# Altium schematic symbol library devices.SCHLIB: 305 symbols (part 1 of 5)
Pins are listed as number, name and electrical type; pins without a type are passive.

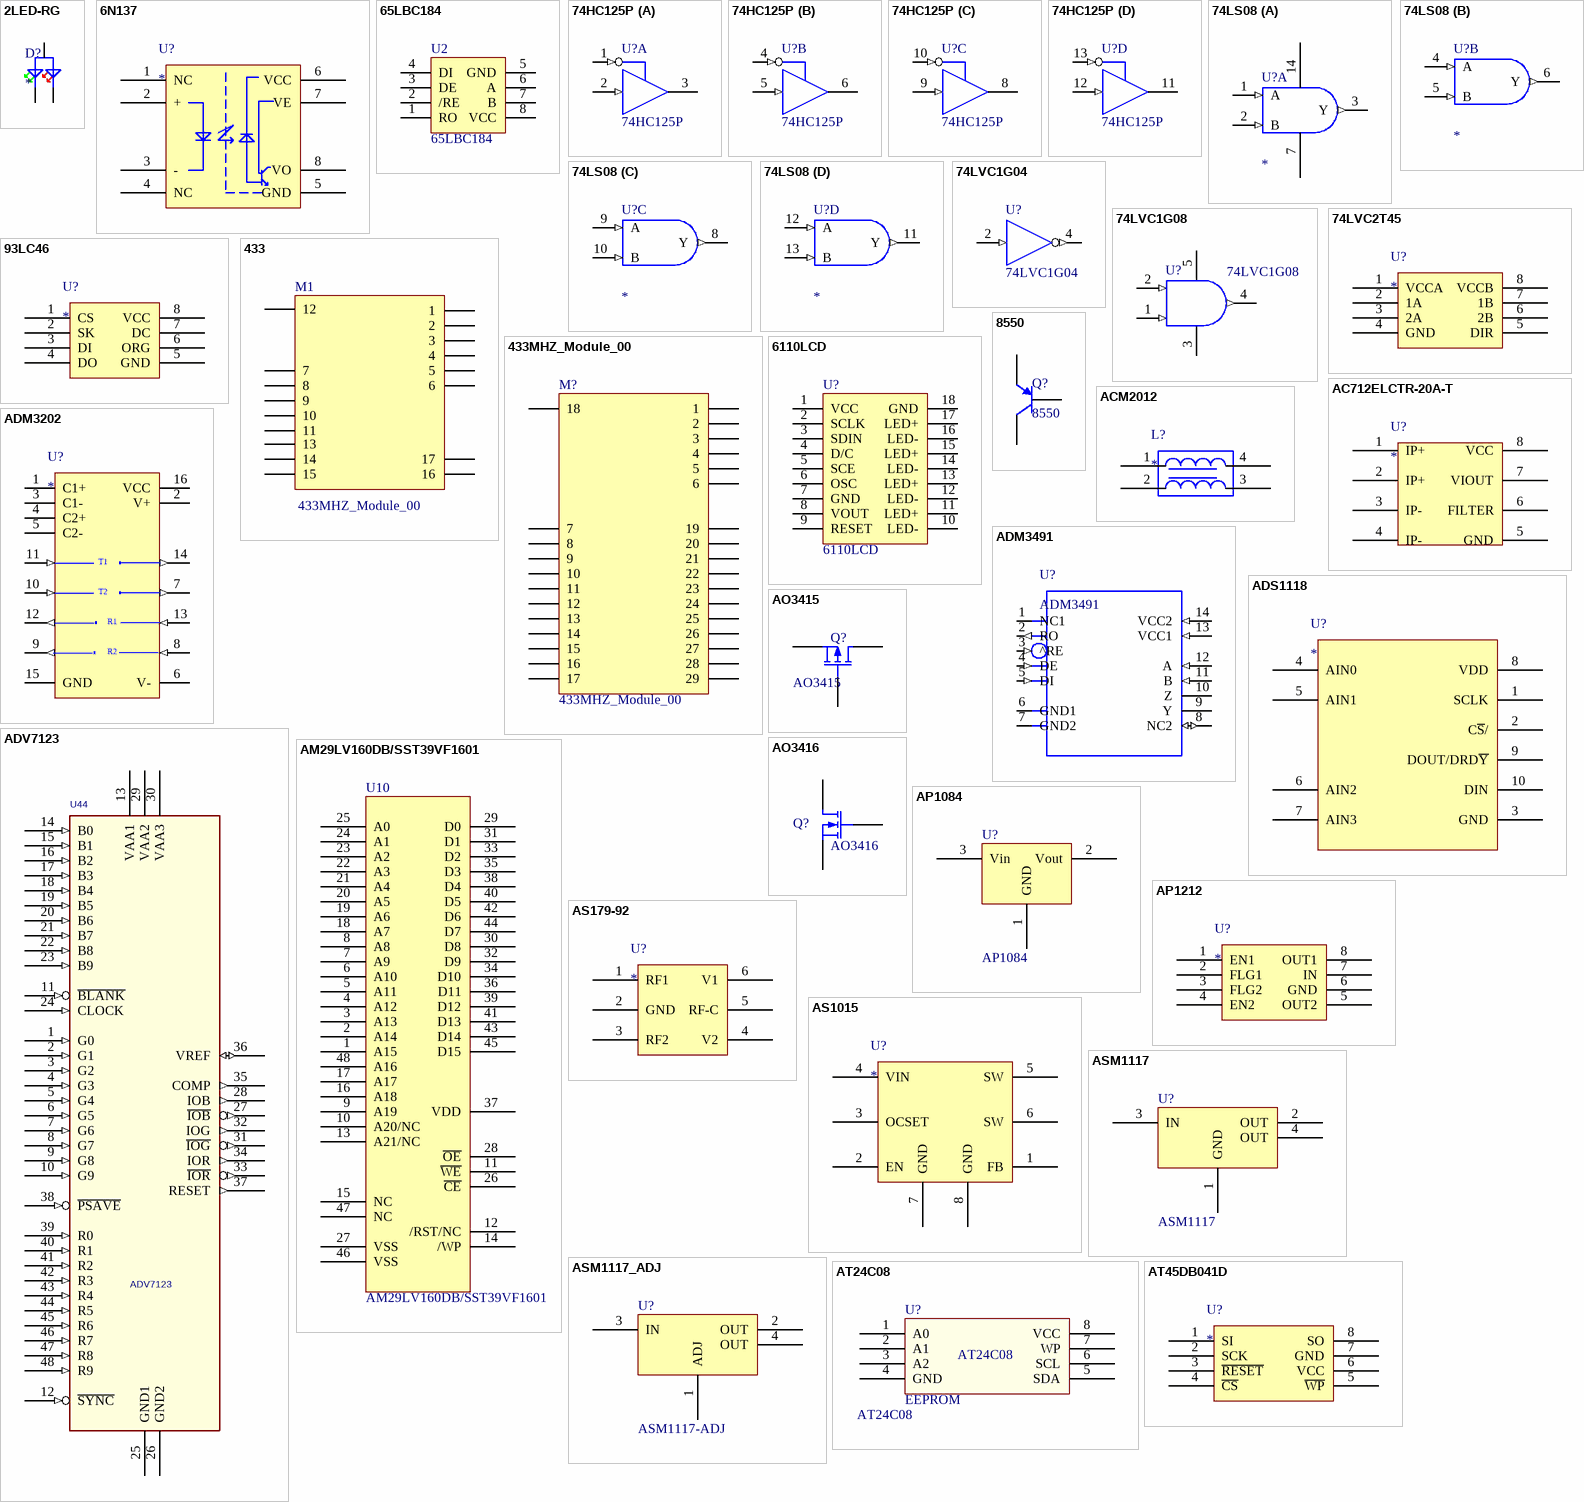
[diagram p0: symbols 2LED-RG to AT45DB041D]

## 2LED-RG
designator D?
pins: 1 G, 2 +, 3 R

## 6N137
designator U?
pins: 1 NC, 2 +, 3 -, 4 NC, 5 GND, 6 VCC, 7 VE, 8 VO

## 65LBC184
designator U2
pins: 1 RO, 2 /RE, 3 DE, 4 DI, 5 GND, 6 A, 7 B, 8 VCC

## 74HC125P
designator U?
Quad Bus Buffer Gates with 3-State Outputs; Published: 10-Feb-2010; DatasheetVersion: Rev.3.00, Mar-2009; PackageVersion: Sep-2005; PackageReference: PRDP0014AB-B; Publisher: Altium Limited; PackageDescription: 14-Pin Plastic DIP, 19.2 x 6.3 mm Body, 7.62 mm Row Spacing, Pitch 2.54 mm; Code_JEITA: P-DIP14-6.3x19.2-2.54; ComponentLink1Description: Manufacturer Link; ComponentLink1URL: http://sg.renesas.com/fmwk.jsp?cnt=hd74hc_root.jsp&fp=/products/standard_ic/general_purpose_logic/5v_standard_logic/hd74hc/; ComponentLink2Description: Datasheet; ComponentLink2URL: http://documentation.renesas.com/eng/products/logic/rej03d0565_hd74hc125_126ds.pdf; ComponentLink3Description: Packaging Specification; ComponentLink3URL: http://sg.renesas.com/media/products/common_info/package/pdf/ic/code/prdp0014ab_b.pdf
footprint SSOP14-D (SOIC, 14-Leads, Body 8.7x3.9mm, Pitch 1.27mm, IPC Medium Density)
pins on every part: 7 GND (power) hidden, 14 VCC (power) hidden
part A pins: 1 1~{C} (in), 2 1A (in), 3 1Y (hiz)
part B pins: 4 2~{C} (in), 5 2A (in), 6 2Y (hiz)
part C pins: 8 3Y (hiz), 9 3A (in), 10 3~{C} (in)
part D pins: 11 4Y (hiz), 12 4A (in), 13 4~{C} (in)

## 74LS08
designator U?
PARTS: 4; OriginalSymbolOrigin: (20,50); PINSWAP: (A,B); LEVEL: STD; DEVICE: MM74HC08MX
part A pins: 1 A (in), 2 B (in), 3 Y (out), 7 GND, 14 VCC
part B pins: 4 A (in), 5 B (in), 6 Y (out)
part C pins: 8 Y (out), 9 A (in), 10 B (in)
part D pins: 11 Y (out), 12 A (in), 13 B (in)

## 74LVC1G04
designator U?
Inverter; Published: 10-Feb-2010; DatasheetVersion: Rev.8.00, Mar-2008; PackageVersion: Jan-2005; PackageReference: PTSP0005ZC-A; Publisher: Altium Limited; PackageDescription: 5-Pin Plastic SOT-353 Package 0.65 mm Pitch, 2.1 mm Lead Span; Code_JEITA: SC-88A; Code_IPC: SOT353-5; ComponentLink1Description: Manufacturer Link; ComponentLink1URL: http://sg.renesas.com/fmwk.jsp?cnt=unilogic_lva_lvta_root.jsp&fp=/products/standard_ic/general_purpose_logic/uni_logic/unilogic_lva_lvta/; ComponentLink2Description: Datasheet; ComponentLink2URL: http://documentation.renesas.com/eng/products/logic/rej03d0064_hd74lv1g04a.pdf; ComponentLink3Description: Packaging Specification; ComponentLink3URL: http://sg.renesas.com/media/products/common_info/package/pdf/ic/code/ptsp0005zc_a.pdf
footprint SOT23-5 (SOT-23/SC-74A; 5 Leads; Body 3 x 3 mm, inc. leads (LxW max))
footprint PTSP0005ZC-A_L (SOT353, 5-Leads, Body 2x1.3mm, Pitch 0.65mm, Lead Span 2.1mm, IPC High Density)
footprint PTSP0005ZC-A_M (SOT353, 5-Leads, Body 2x1.3mm, Pitch 0.65mm, Lead Span 2.1mm, IPC Low Density)
pins: 1 NC hidden, 2 IN A (in), 3 GND (power) hidden, 4 OUT ~{Y} (out), 5 VCC (power) hidden

## 74LVC1G08
designator U?
2-Input AND Gate; Published: 10-Feb-2010; DatasheetVersion: Rev.5.00, Jan-2004; PackageVersion: Jan-2005; PackageReference: PTSP0005ZC-A; Publisher: Altium Limited; PackageDescription: 5-Pin Plastic SOT-353 Package 0.65 mm Pitch, 2.1 mm Lead Span; Code_JEITA: SC-88A; Code_IPC: SOT353-5; ComponentLink1Description: Manufacturer Link; ComponentLink1URL: http://sg.renesas.com/fmwk.jsp?cnt=unilogic_hc_root.jsp&fp=/products/standard_ic/general_purpose_logic/uni_logic/unilogic_hc/; ComponentLink2Description: Datasheet; ComponentLink2URL: http://documentation.renesas.com/eng/products/logic/rej03d0194_hd74hct1g08.pdf; ComponentLink3Description: Packaging Specification; ComponentLink3URL: http://sg.renesas.com/media/products/common_info/package/pdf/ic/code/ptsp0005zc_a.pdf
footprint SOT23-5 (SOT-23/SC-74A; 5 Leads; Body 3 x 3 mm, inc. leads (LxW max))
footprint PTSP0005ZC-A_L (SOT353, 5-Leads, Body 2x1.3mm, Pitch 0.65mm, Lead Span 2.1mm, IPC High Density)
footprint PTSP0005ZC-A_M (SOT353, 5-Leads, Body 2x1.3mm, Pitch 0.65mm, Lead Span 2.1mm, IPC Low Density)
pins: 1 IN B (in), 2 IN A (in), 3 GND (power), 4 OUT Y (out), 5 VCC (power)

## 74LVC2T45
designator U?
pins: 1 VCCA, 2 1A, 3 2A, 4 GND, 5 DIR, 6 2B, 7 1B, 8 VCCB

## 93LC46
designator U?
pins: 1 CS, 2 SK, 3 DI, 4 DO, 5 GND, 6 ORG, 7 DC, 8 VCC

## 433
designator M1, comment value 433MHZ_Module_00  (hidden comment: Module)
433MHZ_Module_00; LatestRevisionDate: 17-Jul-2002; LatestRevisionNote: Re-released for DXP Platform.; Publisher: Altium Limited
footprint 433
pins: 1, 2, 3, 4, 5, 6, 7, 8, 9, 10, 11, 12, 13, 14, 15, 16, 17

## 433MHZ_Module_00
designator M?, comment value 433MHZ_Module_00  (hidden comment: Module)
433MHZ_Module_00; LatestRevisionDate: 17-Jul-2002; LatestRevisionNote: Re-released for DXP Platform.; Publisher: Altium Limited
footprint 433MHZ_Module_01
pins: 1, 2, 3, 4, 5, 6, 7, 8, 9, 10, 11, 12, 13, 14, 15, 16, 17, 18, 19, 20, 21, 22, 23, 24, 25, 26, 27, 28, 29

## 6110LCD
designator U?
footprint 6110LCD
pins: 1 VCC, 2 SCLK, 3 SDIN, 4 D/C, 5 SCE, 6 OSC, 7 GND, 8 VOUT, 9 RESET, 10 LED-, 11 LED+, 12 LED-, 13 LED+, 14 LED-, 15 LED+, 16 LED-, 17 LED+, 18 GND

## 8550
designator Q?
PNP General Purpose Amplifier; Published: 8-Jun-2000; LatestRevisionDate: 15-Jan-2003; LatestRevisionNote: PCB Footprint 'BCY-W3/D4.7' replaced; DatasheetDocument: 1997; PackageDocument: Sep-1998; PackageReference: TO-92A; Publisher: Altium Limited; Code_JEDEC: TO-92A; ComponentLink1Description: Manufacturer Link; ComponentLink1URL: http://www.fairchildsemi.com/; ComponentLink2Description: Datasheet; ComponentLink2URL: http://www.fairchildsemi.com/ds/2N%2F2N3906.pdf
footprint TO-92A (TO, Flat Index; 3 In-Line, Axial Leads; Body Dia. 4.5mm; Leads 0.51 x 0.48 mm (max))
simulation model 2N3906 (PNP)
signal-integrity model 2N3906
pins: 1 B, 2 E, 3 C

## AC712ELCTR-20A-T
designator U?
pins: 1 IP+, 2 IP+, 3 IP-, 4 IP-, 5 GND, 6 FILTER, 7 VIOUT, 8 VCC

## ACM2012
designator L?
pins: 1, 2, 3, 4

## ADM3202
designator U?
pins: 1 C1+, 2 V+ (power), 3 C1-, 4 C2+, 5 C2-, 6 V- (power), 7 T2OUT (out), 8 R2IN (in), 9 R2OUT (out), 10 T2IN (in), 11 T1IN (in), 12 R1OUT (out), 13 R1IN (in), 14 T1OUT (out), 15 GND (power), 16 VCC (power)
text: T1; T2; R1; R2

## ADM3491
designator U?
pins: 1 NC1 (io), 2 RO (out), 3 ^RE (in), 4 DE (in), 5 DI (in), 6 GND1 (io), 7 GND2 (io), 8 NC2 (io), 9 Y, 10 Z, 11 B (in), 12 A (in), 13 VCC1 (in), 14 VCC2 (in)

## ADS1118
designator U?
pins: 1 SCLK, 2 C~{S}/, 3 GND, 4 AIN0, 5 AIN1, 6 AIN2, 7 AIN3, 8 VDD, 9 DOUT/DRD~{Y}, 10 DIN

## ADV7123
designator U44
IC LIN DAC 10BIT TRIP 240MHZ 3.3-5V LQFP48; CAD_APPROVED: Yes; MFG_PN01: ADV7123JSTZ240; MFG_NAME01: ANALOG DEVICES; AGILE_PN: 315-78825; HEIGHT: 1.6MM; ROHS: Yes
footprint LQFP48
pins: 1 G0 (in), 2 G1 (in), 3 G2 (in), 4 G3 (in), 5 G4 (in), 6 G5 (in), 7 G6 (in), 8 G7 (in), 9 G8 (in), 10 G9 (in), 11 ~{BLANK} (in), 12 ~{SYNC} (in), 13 VAA1 (power), 14 B0 (in), 15 B1 (in), 16 B2 (in), 17 B3 (in), 18 B4 (in), 19 B5 (in), 20 B6 (in), 21 B7 (in), 22 B8 (in), 23 B9 (in), 24 CLOCK (in), 25 GND1 (power), 26 GND2 (power), 27 ~{IOB} (out), 28 IOB (out), 29 VAA2 (power), 30 VAA3 (power), 31 ~{IOG} (out), 32 IOG (out), 33 ~{IOR} (out), 34 IOR (out), 35 COMP (out), 36 VREF (io), 37 RESET (out), 38 ~{PSAVE} (in), 39 R0 (in), 40 R1 (in), 41 R2 (in), 42 R3 (in), 43 R4 (in), 44 R5 (in), 45 R6 (in), 46 R7 (in), 47 R8 (in), 48 R9 (in)

## AM29LV160DB/SST39VF1601
designator U10
footprint TSOP48
pins: 1 A15, 2 A14, 3 A13, 4 A12, 5 A11, 6 A10, 7 A9, 8 A8, 9 A19, 10 A20/NC, 11 ~{WE}, 12 /RST/NC, 13 A21/NC, 14 /WP, 15 NC, 16 A18, 17 A17, 18 A7, 19 A6, 20 A5, 21 A4, 22 A3, 23 A2, 24 A1, 25 A0, 26 ~{CE}, 27 VSS, 28 ~{OE}, 29 D0, 30 D8, 31 D1, 32 D9, 33 D2, 34 D10, 35 D3, 36 D11, 37 VDD, 38 D4, 39 D12, 40 D5, 41 D13, 42 D6, 43 D14, 44 D7, 45 D15, 46 VSS, 47 NC, 48 A16

## AO3415
designator Q?
N-Channel MOSFET; PackageDocument: 1995/1996; Published: 8-Jun-2000; LatestRevisionDate: 17-Jul-2002; LatestRevisionNote: Re-released for DXP Platform.; PackageReference: E3; Publisher: Altium Limited
footprint SOT-23
simulation model PMOS (MOSFET-P)
pins: 1 G, 2 S, 3 D

## AO3416
designator Q?
N-Channel MOSFET; PackageDocument: 1995/1996; Published: 8-Jun-2000; LatestRevisionDate: 17-Jul-2002; LatestRevisionNote: Re-released for DXP Platform.; PackageReference: E3; Publisher: Altium Limited
footprint SOT-23
simulation model NMOS (MOSFET-N)
pins: 1 G, 2 S, 3 D

## AP1084
designator U?
pins: 1 GND, 2 Vout, 3 Vin

## AP1212
designator U?
pins: 1 EN1, 2 FLG1, 3 FLG2, 4 EN2, 5 OUT2, 6 GND, 7 IN, 8 OUT1

## AS179-92
designator U?
pins: 1 RF1, 2 GND, 3 RF2, 4 V2, 5 RF-C, 6 V1

## AS1015
designator U?
pins: 1 FB, 2 EN, 3 OCSET, 4 VIN, 5 SW, 6 SW, 7 GND, 8 GND

## ASM1117
designator U?
pins: 1 GND, 2 OUT, 3 IN, 4 OUT

## ASM1117_ADJ
designator U?, comment ASM1117-ADJ
pins: 1 ADJ, 2 OUT, 3 IN, 4 OUT

## AT24C08
designator U?, comment EEPROM  value AT24C08
footprint AT24C08A
pins: 1 A0, 2 A1, 3 A2, 4 GND, 5 SDA, 6 SCL, 7 WP, 8 VCC

## AT45DB041D
designator U?
pins: 1 SI, 2 SCK, 3 ~{RESET}, 4 ~{CS}, 5 ~{WP}, 6 VCC, 7 GND, 8 SO

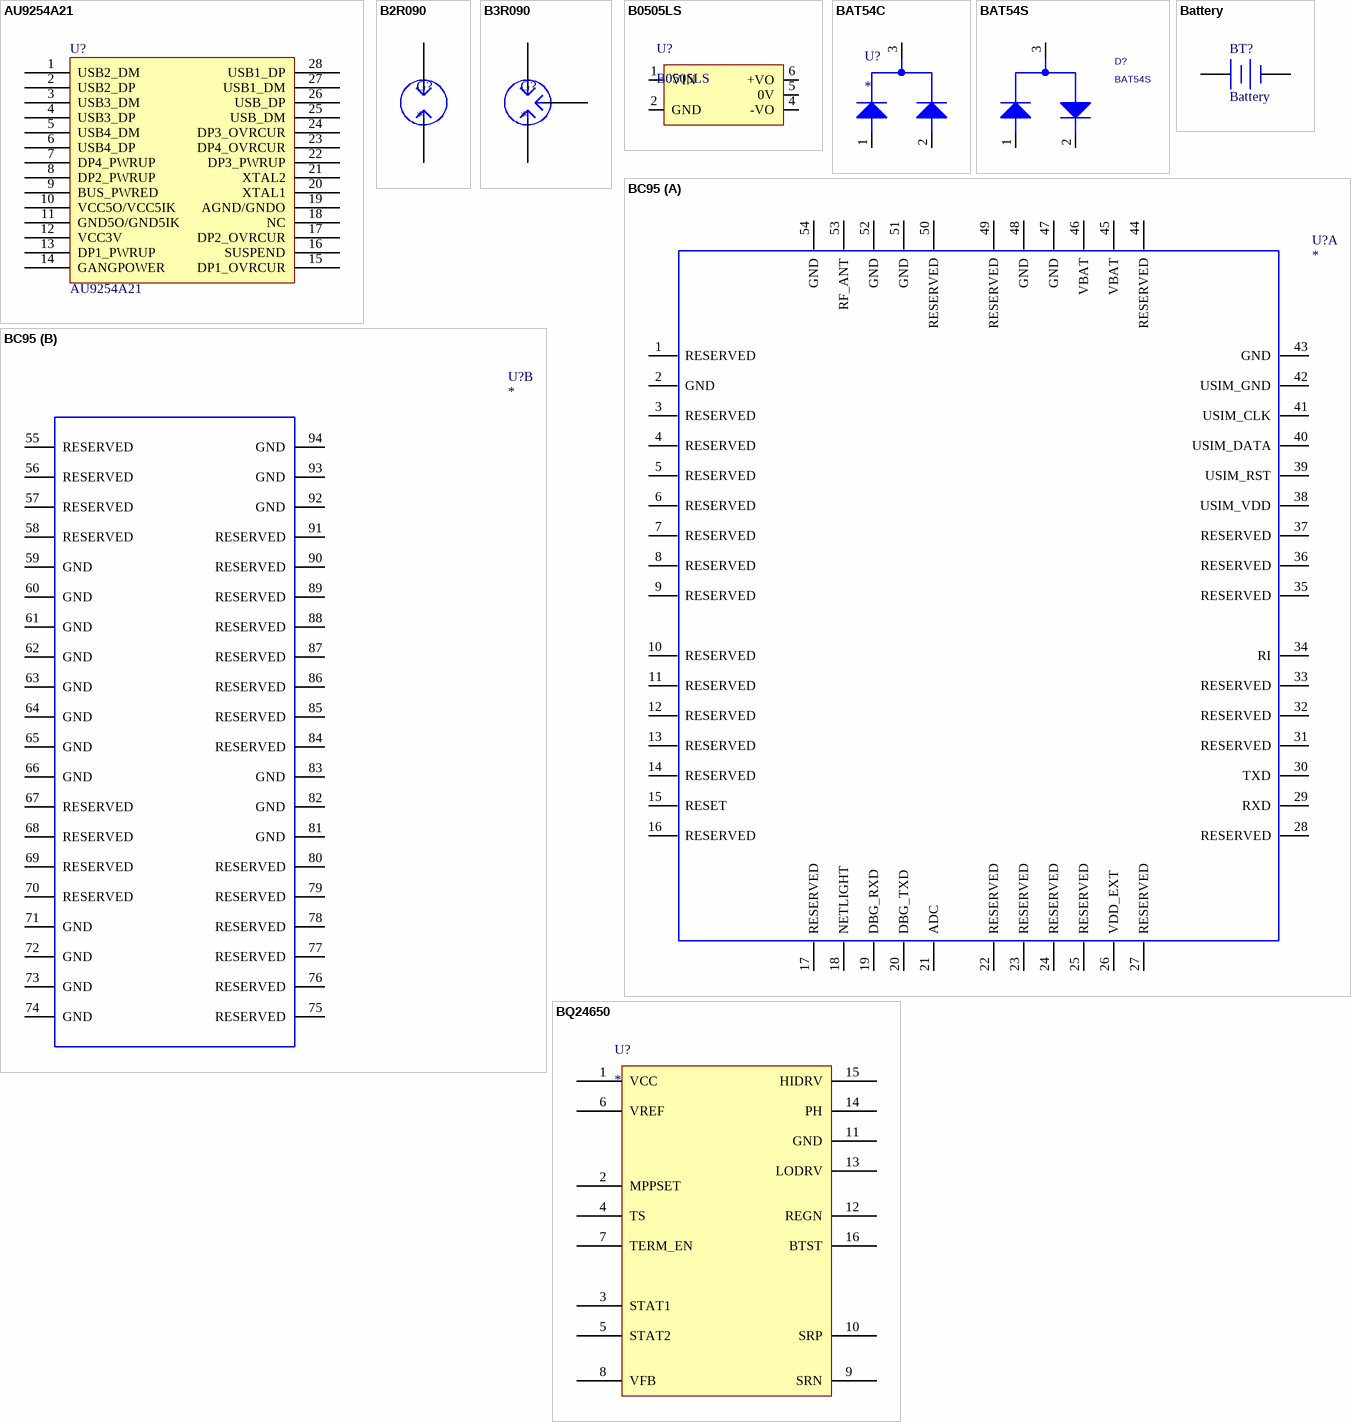
[diagram p1: symbols AU9254A21 to BQ24650]

## AU9254A21
designator U?
pins: 1 USB2_DM, 2 USB2_DP, 3 USB3_DM, 4 USB3_DP, 5 USB4_DM, 6 USB4_DP, 7 DP4_PWRUP, 8 DP2_PWRUP, 9 BUS_PWRED, 10 VCC5O/VCC5IK, 11 GND5O/GND5IK, 12 VCC3V, 13 DP1_PWRUP, 14 GANGPOWER, 15 DP1_OVRCUR, 16 SUSPEND, 17 DP2_OVRCUR, 18 NC, 19 AGND/GNDO, 20 XTAL1, 21 XTAL2, 22 DP3_PWRUP, 23 DP4_OVRCUR, 24 DP3_OVRCUR, 25 USB_DM, 26 USB_DP, 27 USB1_DM, 28 USB1_DP

## B2R090
designator G?
pins: 1, 2

## B3R090
designator G?
pins: 1, 2, 3

## B0505LS
designator U?
pins: 1 VIN, 2 GND, 4 -VO, 5 0V, 6 +VO

## BAT54C
designator U?
pins: 1 ANODE1, 2 CATHODE2, 3 CATHODE1ANODE2

## BAT54S
designator D?
CAD_APPROVED: YES; MFG_NAME01: FAIRCHILD; AGILE_PN: 480-75079; HEIGHT: 1.1 MM; ROHS: Yes; MFG_PN01: BAT54S
footprint SOT-23
pins: 1 ANODE1, 2 CATHODE2, 3 CATHODE1ANODE2

## Battery
designator BT?
Multicell Battery; Published: 24-Mar-1999; Revision: July-2002: Re-released for DXP Platform.; Publisher: Altium Limited
pins: 1 +, 2 -

## BC95
designator U?
Value: *; Part Description: *; PCB DECAL: *
part A pins: 1 RESERVED, 2 GND, 3 RESERVED, 4 RESERVED, 5 RESERVED, 6 RESERVED, 7 RESERVED, 8 RESERVED, 9 RESERVED, 10 RESERVED, 11 RESERVED, 12 RESERVED, 13 RESERVED, 14 RESERVED, 15 RESET, 16 RESERVED, 17 RESERVED, 18 NETLIGHT, 19 DBG_RXD, 20 DBG_TXD, 21 ADC, 22 RESERVED, 23 RESERVED, 24 RESERVED, 25 RESERVED, 26 VDD_EXT, 27 RESERVED, 28 RESERVED, 29 RXD, 30 TXD, 31 RESERVED, 32 RESERVED, 33 RESERVED, 34 RI, 35 RESERVED, 36 RESERVED, 37 RESERVED, 38 USIM_VDD, 39 USIM_RST, 40 USIM_DATA, 41 USIM_CLK, 42 USIM_GND, 43 GND, 44 RESERVED, 45 VBAT, 46 VBAT, 47 GND, 48 GND, 49 RESERVED, 50 RESERVED, 51 GND, 52 GND, 53 RF_ANT, 54 GND
part B pins: 55 RESERVED, 56 RESERVED, 57 RESERVED, 58 RESERVED, 59 GND, 60 GND, 61 GND, 62 GND, 63 GND, 64 GND, 65 GND, 66 GND, 67 RESERVED, 68 RESERVED, 69 RESERVED, 70 RESERVED, 71 GND, 72 GND, 73 GND, 74 GND, 75 RESERVED, 76 RESERVED, 77 RESERVED, 78 RESERVED, 79 RESERVED, 80 RESERVED, 81 GND, 82 GND, 83 GND, 84 RESERVED, 85 RESERVED, 86 RESERVED, 87 RESERVED, 88 RESERVED, 89 RESERVED, 90 RESERVED, 91 RESERVED, 92 GND, 93 GND, 94 GND
2 alternate drawings of the same symbol

## BQ24650
designator U?
pins: 1 VCC, 2 MPPSET, 3 STAT1, 4 TS, 5 STAT2, 6 VREF, 7 TERM_EN, 8 VFB, 9 SRN, 10 SRP, 11 GND, 12 REGN, 13 LODRV, 14 PH, 15 HIDRV, 16 BTST

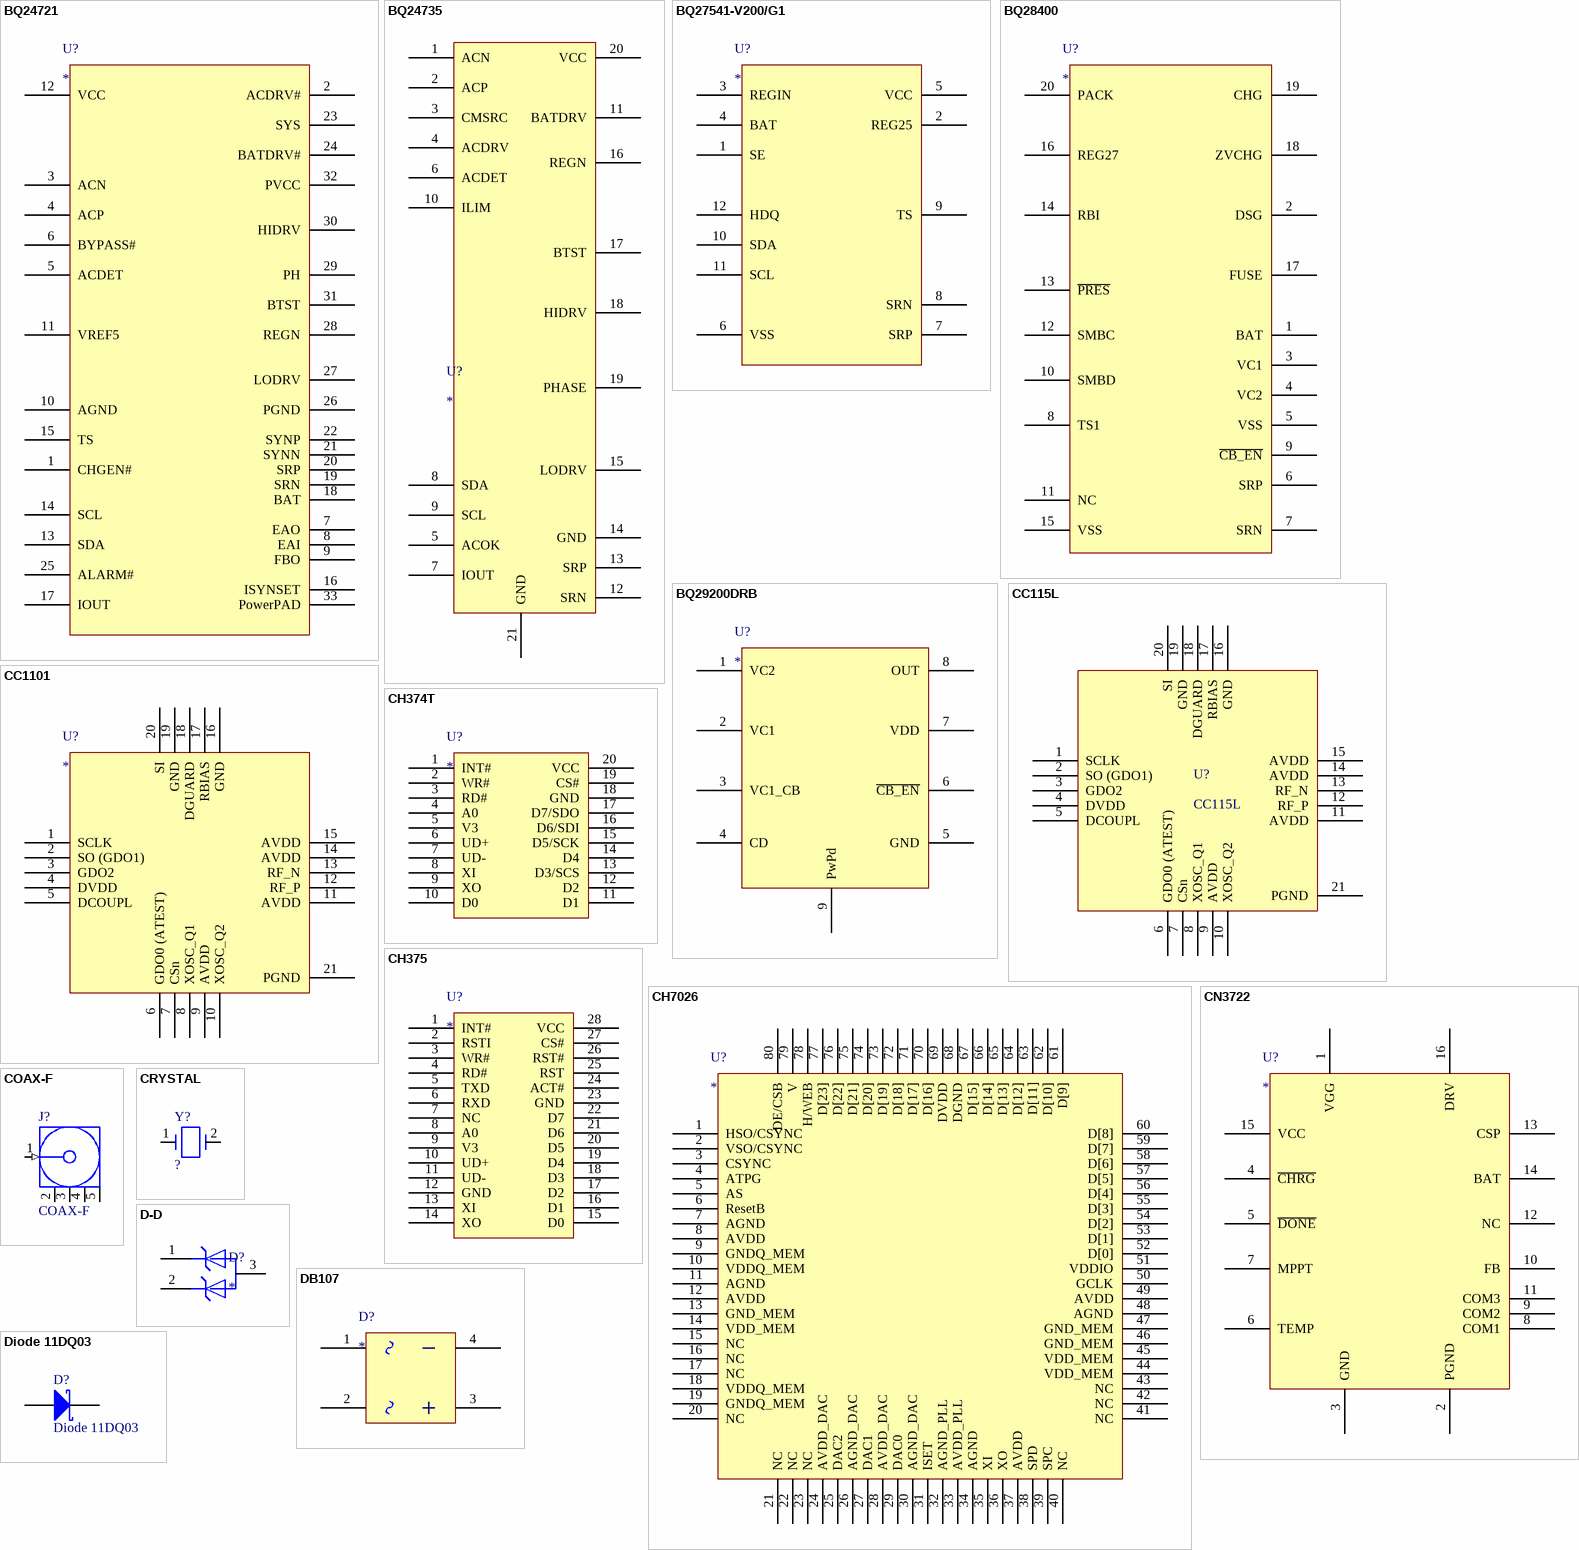
[diagram p2: symbols BQ24721 to Diode 11DQ03]

## BQ24721
designator U?
pins: 1 CHGEN#, 2 ACDRV#, 3 ACN, 4 ACP, 5 ACDET, 6 BYPASS#, 7 EAO, 8 EAI, 9 FBO, 10 AGND, 11 VREF5, 12 VCC, 13 SDA, 14 SCL, 15 TS, 16 ISYNSET, 17 IOUT, 18 BAT, 19 SRN, 20 SRP, 21 SYNN, 22 SYNP, 23 SYS, 24 BATDRV#, 25 ALARM#, 26 PGND, 27 LODRV, 28 REGN, 29 PH, 30 HIDRV, 31 BTST, 32 PVCC, 33 PowerPAD

## BQ24735
designator U?
pins: 1 ACN, 2 ACP, 3 CMSRC, 4 ACDRV, 5 ACOK, 6 ACDET, 7 IOUT, 8 SDA, 9 SCL, 10 ILIM, 11 BATDRV, 12 SRN, 13 SRP, 14 GND, 15 LODRV, 16 REGN, 17 BTST, 18 HIDRV, 19 PHASE, 20 VCC, 21 GND

## BQ27541-V200/G1
designator U?
pins: 1 SE, 2 REG25, 3 REGIN, 4 BAT, 5 VCC, 6 VSS, 7 SRP, 8 SRN, 9 TS, 10 SDA, 11 SCL, 12 HDQ

## BQ28400
designator U?
pins: 1 BAT, 2 DSG, 3 VC1, 4 VC2, 5 VSS, 6 SRP, 7 SRN, 8 TS1, 9 ~{CB_EN}, 10 SMBD, 11 NC, 12 SMBC, 13 ~{PRES}, 14 RBI, 15 VSS, 16 REG27, 17 FUSE, 18 ZVCHG, 19 CHG, 20 PACK

## BQ29200DRB
designator U?
pins: 1 VC2, 2 VC1, 3 VC1_CB, 4 CD, 5 GND, 6 ~{CB_EN}, 7 VDD, 8 OUT, 9 PwPd

## CC115L
designator U?
pins: 1 SCLK, 2 SO (GDO1), 3 GDO2, 4 DVDD, 5 DCOUPL, 6 GDO0 (ATEST), 7 CSn, 8 XOSC_Q1, 9 AVDD, 10 XOSC_Q2, 11 AVDD, 12 RF_P, 13 RF_N, 14 AVDD, 15 AVDD, 16 GND, 17 RBIAS, 18 DGUARD, 19 GND, 20 SI, 21 PGND

## CC1101
designator U?
pins: 1 SCLK, 2 SO (GDO1), 3 GDO2, 4 DVDD, 5 DCOUPL, 6 GDO0 (ATEST), 7 CSn, 8 XOSC_Q1, 9 AVDD, 10 XOSC_Q2, 11 AVDD, 12 RF_P, 13 RF_N, 14 AVDD, 15 AVDD, 16 GND, 17 RBIAS, 18 DGUARD, 19 GND, 20 SI, 21 PGND

## CH374T
designator U?
pins: 1 INT#, 2 WR#, 3 RD#, 4 A0, 5 V3, 6 UD+, 7 UD-, 8 XI, 9 XO, 10 D0, 11 D1, 12 D2, 13 D3/SCS, 14 D4, 15 D5/SCK, 16 D6/SDI, 17 D7/SDO, 18 GND, 19 CS#, 20 VCC

## CH375
designator U?
pins: 1 INT#, 2 RSTI, 3 WR#, 4 RD#, 5 TXD, 6 RXD, 7 NC, 8 A0, 9 V3, 10 UD+, 11 UD-, 12 GND, 13 XI, 14 XO, 15 D0, 16 D1, 17 D2, 18 D3, 19 D4, 20 D5, 21 D6, 22 D7, 23 GND, 24 ACT#, 25 RST, 26 RST#, 27 CS#, 28 VCC

## CH7026
designator U?
pins: 1 HSO/CSYNC, 2 VSO/CSYNC, 3 CSYNC, 4 ATPG, 5 AS, 6 ResetB, 7 AGND, 8 AVDD, 9 GNDQ_MEM, 10 VDDQ_MEM, 11 AGND, 12 AVDD, 13 GND_MEM, 14 VDD_MEM, 15 NC, 16 NC, 17 NC, 18 VDDQ_MEM, 19 GNDQ_MEM, 20 NC, 21 NC, 22 NC, 23 NC, 24 AVDD_DAC, 25 DAC2, 26 AGND_DAC, 27 DAC1, 28 AVDD_DAC, 29 DAC0, 30 AGND_DAC, 31 ISET, 32 AGND_PLL, 33 AVDD_PLL, 34 AGND, 35 XI, 36 XO, 37 AVDD, 38 SPD, 39 SPC, 40 NC, 41 NC, 42 NC, 43 NC, 44 VDD_MEM, 45 VDD_MEM, 46 GND_MEM, 47 GND_MEM, 48 AGND, 49 AVDD, 50 GCLK, 51 VDDIO, 52 D[0], 53 D[1], 54 D[2], 55 D[3], 56 D[4], 57 D[5], 58 D[6], 59 D[7], 60 D[8], 61 D[9], 62 D[10], 63 D[11], 64 D[12], 65 D[13], 66 D[14], 67 D[15], 68 DGND, 69 DVDD, 70 D[16], 71 D[17], 72 D[18], 73 D[19], 74 D[20], 75 D[21], 76 D[22], 77 D[23], 78 H/WEB, 79 V, 80 DE/CSB

## CN3722
designator U?
pins: 1 VGG, 2 PGND, 3 GND, 4 ~{CHRG}, 5 ~{DONE}, 6 TEMP, 7 MPPT, 8 COM1, 9 COM2, 10 FB, 11 COM3, 12 NC, 13 CSP, 14 BAT, 15 VCC, 16 DRV

## COAX-F
designator J?
RF Coaxial PCB Connector, MCX; Thru-Hole, Right-Angle Mount Socket, Blunt Post Terminal, 50 Ohm Impedance; PCB_Layout: Complies with manufacturer's recommendation.; DrillSize: Corresponds to nominal value.; Published: 15-Jul-2004; LatestRevisionDate: 15-Jul-2004; LatestRevisionNote: Component Replaced.; DatasheetDocument: 30-May-2003; PackageDocument: 04-Jul-1999; PackageReference: 919-119J-51AX; Publisher: Altium Limited; ComponentLink1Description: Manufacturer Link; ComponentLink1URL: http://www.amphenolrf.com/
footprint MCX5.08-H5 (Connector; RF Coaxial, MCX, Thru-Hole; 5 Position; Right-Angle)
pins: 1 Signal (in) "Signal Pin", 2 GND (power), 3 GND (power), 4 GND (power), 5 GND (power)

## CRYSTAL
designator Y?, comment ?
pins: 1, 2

## D-D
designator D?
pins: 1 C1, 2 C2, 3 A

## DB107
designator D?
pins: 1, 2, 3, 4
1 alternate drawing of the same symbol

## Diode 11DQ03
designator D?
Schottky Rectifier; Published: 8-Jun-2000; LatestRevisionDate: 17-Jul-2002; LatestRevisionNote: Re-released for DXP Platform.; DatasheetVersion: Dec-1997; PackageReference: DO-204AL; Publisher: Altium Limited; PackageDescription: Diode, Axial; Body 5.2 x 2.7 mm (LxDia. max), Lead Dia. 0.86 mm (max); Code_JEDEC: DO-204-AL; ComponentLink1Description: Manufacturer Link; ComponentLink1URL: http://www.irf.com/; ComponentLink2Description: Datasheet; ComponentLink2URL: http://www.irf.com/product-info/datasheets/data/11dq03.pdf
footprint DO-204AL (Diode, Axial; Body 5.2 x 2.7 mm (LxDia. max), Lead Dia. 0.86 mm (max))
simulation model 11DQ03 (DIODE)
pins: 1 A, 2 K

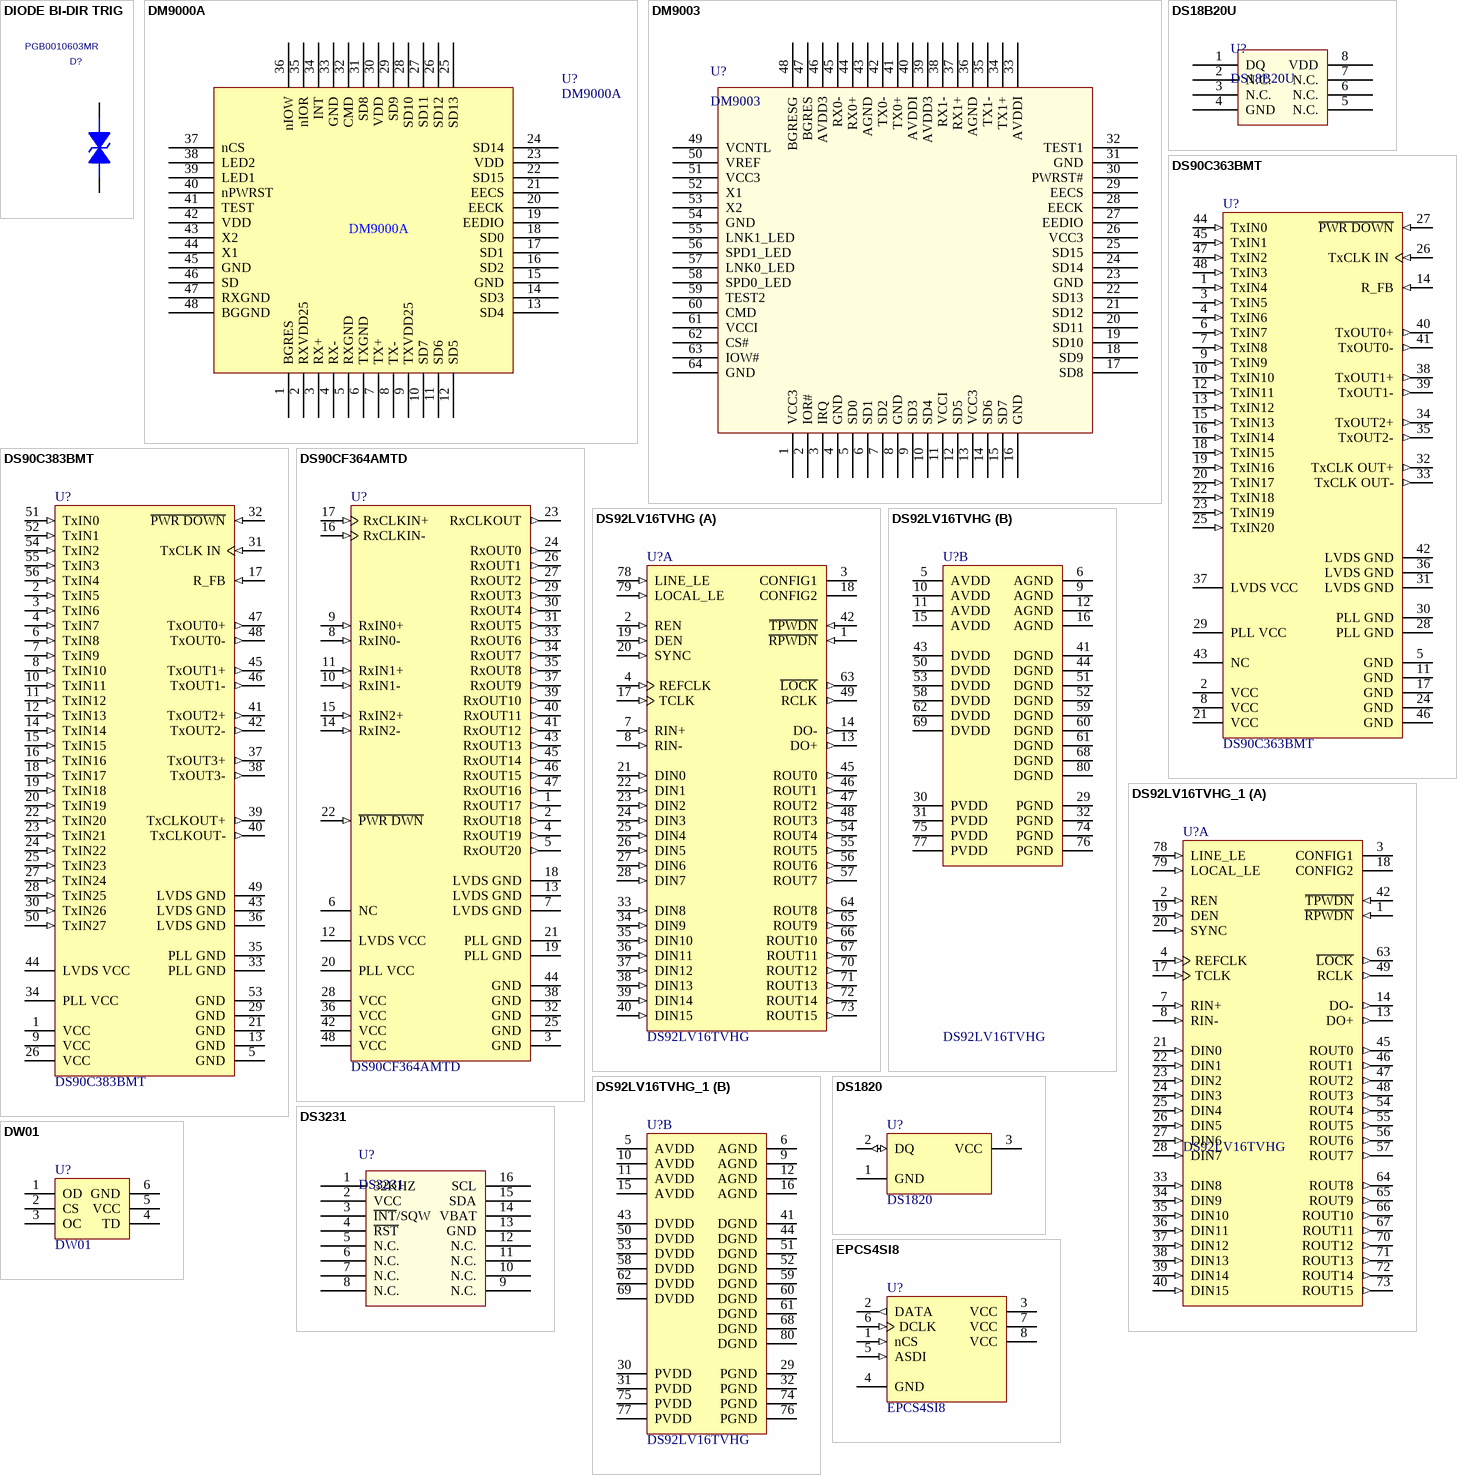
[diagram p3: symbols DIODE BI-DIR TRIG to EPCS4SI8]

## DIODE BI-DIR TRIG
designator D?, comment PGB0010603MR
pins: 1, 2

## DM9000A
designator U?
footprint F-QFP7x7-G48/N (QFP; 48 Leads; Body 7 x 7 mm; Pitch 0.5 mm)
pins: 1 BGRES, 2 RXVDD25, 3 RX+, 4 RX-, 5 RXGND, 6 TXGND, 7 TX+, 8 TX-, 9 TXVDD25, 10 SD7, 11 SD6, 12 SD5, 13 SD4, 14 SD3, 15 GND, 16 SD2, 17 SD1, 18 SD0, 19 EEDIO, 20 EECK, 21 EECS, 22 SD15, 23 VDD, 24 SD14, 25 SD13, 26 SD12, 27 SD11, 28 SD10, 29 SD9, 30 VDD, 31 SD8, 32 CMD, 33 GND, 34 INT, 35 nIOR, 36 nIOW, 37 nCS, 38 LED2, 39 LED1, 40 nPWRST, 41 TEST, 42 VDD, 43 X2, 44 X1, 45 GND, 46 SD, 47 RXGND, 48 BGGND

## DM9003
designator U?
pins: 1 VCC3, 2 IOR#, 3 IRQ, 4 GND, 5 SD0, 6 SD1, 7 SD2, 8 GND, 9 SD3, 10 SD4, 11 VCCI, 12 SD5, 13 VCC3, 14 SD6, 15 SD7, 16 GND, 17 SD8, 18 SD9, 19 SD10, 20 SD11, 21 SD12, 22 SD13, 23 GND, 24 SD14, 25 SD15, 26 VCC3, 27 EEDIO, 28 EECK, 29 EECS, 30 PWRST#, 31 GND, 32 TEST1, 33 AVDDI, 34 TX1+, 35 TX1-, 36 AGND, 37 RX1+, 38 RX1-, 39 AVDD3, 40 AVDDI, 41 TX0+, 42 TX0-, 43 AGND, 44 RX0+, 45 RX0-, 46 AVDD3, 47 BGRES, 48 BGRESG, 49 VCNTL, 50 VREF, 51 VCC3, 52 X1, 53 X2, 54 GND, 55 LNK1_LED, 56 SPD1_LED, 57 LNK0_LED, 58 SPD0_LED, 59 TEST2, 60 CMD, 61 VCCI, 62 CS#, 63 IOW#, 64 GND

## DS18B20U
designator U?
pins: 1 DQ, 2 N.C., 3 N.C., 4 GND, 5 N.C., 6 N.C., 7 N.C., 8 VDD

## DS90C363BMT
designator U?
+3.3V Programmable LVDS Transmitter 18-Bit Flat Panel Display (FPD) Link - 65MHz; Manufacturer: National Semiconductor; CompType: Interface IC; PackageTopMarking: NSUZXYTT*DS90C363BMT; Published: 27-Nov-2008; DatasheetVersion: Oct-2006; PackageVersion: revE, Apr-2003; PackageReference: MTD48; Publisher: Altium Limited; PackageDescription: Molded TSSOP, Jedec, 12.5 x 6.1 x 0.9mm Body, 48 Lead, 0.50mm Pitch; PartNumber: DS90C363BMT; RoHS: O; PinCount: 48; Code_JEDEC: MO-153-ED; ComponentLink1Description: DS90C363B Datasheet; ComponentLink1URL: http://www.national.com/ds/DS/DS90C363B.pdf; ComponentLink2Description: DS90C363B Web Page; ComponentLink2URL: http://www.national.com/pf/DS/DS90C363B.html; ComponentLink3Description: MTD48 Package Page; ComponentLink3URL: http://www.national.com/packaging/folders/mtd48.html
footprint MTD48_N (TSSOP, 48-Leads, Body 12.5x6.1mm, Pitch 0.5mm, IPC Medium Density)
footprint MTD48_L (TSSOP, 48-Leads, Body 12.5x6.1mm, Pitch 0.5mm, IPC High Density)
footprint MTD48_M (TSSOP, 48-Leads, Body 12.5x6.1mm, Pitch 0.5mm, IPC Low Density)
pins: 1 TxIN4 (in), 2 VCC (power), 3 TxIN5 (in), 4 TxIN6 (in), 5 GND (power), 6 TxIN7 (in), 7 TxIN8 (in), 8 VCC (power), 9 TxIN9 (in), 10 TxIN10 (in), 11 GND (power), 12 TxIN11 (in), 13 TxIN12 (in), 14 R_FB (in), 15 TxIN13 (in), 16 TxIN14 (in), 17 GND (power), 18 TxIN15 (in), 19 TxIN16 (in), 20 TxIN17 (in), 21 VCC (power), 22 TxIN18 (in), 23 TxIN19 (in), 24 GND (power), 25 TxIN20 (in), 26 TxCLK IN (in), 27 ~{PWR DOWN} (in), 28 PLL GND (power), 29 PLL VCC (power), 30 PLL GND (power), 31 LVDS GND (power), 32 TxCLK OUT+ (out), 33 TxCLK OUT- (out), 34 TxOUT2+ (out), 35 TxOUT2- (out), 36 LVDS GND (power), 37 LVDS VCC (power), 38 TxOUT1+ (out), 39 TxOUT1- (out), 40 TxOUT0+ (out), 41 TxOUT0- (out), 42 LVDS GND (power), 43 NC, 44 TxIN0 (in), 45 TxIN1 (in), 46 GND (power), 47 TxIN2 (in), 48 TxIN3 (in)

## DS90C383BMT
designator U?
+3.3V Programmable LVDS Transmitter 24-Bit Flat Panel Display (FPD) Link  -65 MHz; Manufacturer: National Semiconductor; CompType: Interface IC; PackageTopMarking: NSUZXYTT*DS90C383BMT; Published: 27-Nov-2008; DatasheetVersion: Oct-2006; PackageVersion: revD, Apr-2003; PackageReference: MTD56; Publisher: Altium Limited; PackageDescription: Molded TSSOP, Jedec, 14 x 6.1 x 0.9mm Body, 56 Lead, 0.50mm Pitch; PartNumber: DS90C383BMT; RoHS: Y; PinCount: 56; Code_IPC: TSSOP50P810-56; ComponentLink1Description: DS90C383B Datasheet; ComponentLink1URL: http://www.national.com/ds/DS/DS90C383B.pdf; ComponentLink2Description: DS90C383B Web Page; ComponentLink2URL: http://www.national.com/pf/DS/DS90C383B.html; ComponentLink3Description: MTD56 Package Page; ComponentLink3URL: http://www.national.com/packaging/folders/mtd56.html
footprint MTD56_N (TSSOP, 56-Leads, Body 14x6.1mm, Pitch 0.5mm, IPC Medium Density)
footprint MTD56_L (TSSOP, 56-Leads, Body 14x6.1mm, Pitch 0.5mm, IPC High Density)
footprint MTD56_M (TSSOP, 56-Leads, Body 14x6.1mm, Pitch 0.5mm, IPC Low Density)
pins: 1 VCC (power), 2 TxIN5 (in), 3 TxIN6 (in), 4 TxIN7 (in), 5 GND (power), 6 TxIN8 (in), 7 TxIN9 (in), 8 TxIN10 (in), 9 VCC (power), 10 TxIN11 (in), 11 TxIN12 (in), 12 TxIN13 (in), 13 GND (power), 14 TxIN14 (in), 15 TxIN15 (in), 16 TxIN16 (in), 17 R_FB (in), 18 TxIN17 (in), 19 TxIN18 (in), 20 TxIN19 (in), 21 GND (power), 22 TxIN20 (in), 23 TxIN21 (in), 24 TxIN22 (in), 25 TxIN23 (in), 26 VCC (power), 27 TxIN24 (in), 28 TxIN25 (in), 29 GND (power), 30 TxIN26 (in), 31 TxCLK IN (in), 32 ~{PWR DOWN} (in), 33 PLL GND (power), 34 PLL VCC (power), 35 PLL GND (power), 36 LVDS GND (power), 37 TxOUT3+ (out), 38 TxOUT3- (out), 39 TxCLKOUT+ (out), 40 TxCLKOUT- (out), 41 TxOUT2+ (out), 42 TxOUT2- (out), 43 LVDS GND (power), 44 LVDS VCC (power), 45 TxOUT1+ (out), 46 TxOUT1- (out), 47 TxOUT0+ (out), 48 TxOUT0- (out), 49 LVDS GND (power), 50 TxIN27 (in), 51 TxIN0 (in), 52 TxIN1 (in), 53 GND (power), 54 TxIN2 (in), 55 TxIN3 (in), 56 TxIN4 (in)

## DS90CF364AMTD
designator U?
+3.3V LVDS Receiver 18-Bit Flat Panel Display (FPD) Link - 65 MHz; Manufacturer: National Semiconductor; CompType: Interface IC; PackageTopMarking: NS2ZXYTT*DS90CF364AMTD*BBBBB; Published: 27-Nov-2008; DatasheetVersion: Jul-2007; PackageVersion: revE, Apr-2003; PackageReference: MTD48; Publisher: Altium Limited; PackageDescription: Molded TSSOP, Jedec, 12.5 x 6.1 x 0.9mm Body, 48 Lead, 0.50mm Pitch; PartNumber: DS90CF364AMTD; RoHS: O; PinCount: 48; DigiKeyPartNumber: DS90CF364AMTD-ND; Code_JEDEC: MO-153-ED; ComponentLink1Description: DS90CF364A Datasheet; ComponentLink1URL: http://www.national.com/ds/DS/DS90CF364A.pdf; ComponentLink2Description: DS90CF364A Web Page; ComponentLink2URL: http://www.national.com/pf/DS/DS90CF364A.html; ComponentLink3Description: MTD48 Package Page; ComponentLink3URL: http://www.national.com/packaging/folders/mtd48.html
footprint MTD48_N (TSSOP, 48-Leads, Body 12.5x6.1mm, Pitch 0.5mm, IPC Medium Density)
footprint MTD48_L (TSSOP, 48-Leads, Body 12.5x6.1mm, Pitch 0.5mm, IPC High Density)
footprint MTD48_M (TSSOP, 48-Leads, Body 12.5x6.1mm, Pitch 0.5mm, IPC Low Density)
pins: 1 RxOUT17 (out), 2 RxOUT18 (out), 3 GND (power), 4 RxOUT19 (out), 5 RxOUT20 (out), 6 NC, 7 LVDS GND (power), 8 RxIN0- (in), 9 RxIN0+ (in), 10 RxIN1- (in), 11 RxIN1+ (in), 12 LVDS VCC (power), 13 LVDS GND (power), 14 RxIN2- (in), 15 RxIN2+ (in), 16 RxCLKIN- (in), 17 RxCLKIN+ (in), 18 LVDS GND (power), 19 PLL GND (power), 20 PLL VCC (power), 21 PLL GND (power), 22 ~{PWR DWN} (in), 23 RxCLKOUT (out), 24 RxOUT0 (out), 25 GND (power), 26 RxOUT1 (out), 27 RxOUT2 (out), 28 VCC (power), 29 RxOUT3 (out), 30 RxOUT4 (out), 31 RxOUT5 (out), 32 GND (power), 33 RxOUT6 (out), 34 RxOUT7 (out), 35 RxOUT8 (out), 36 VCC (power), 37 RxOUT9 (out), 38 GND (power), 39 RxOUT10 (out), 40 RxOUT11 (out), 41 RxOUT12 (out), 42 VCC (power), 43 RxOUT13 (out), 44 GND (power), 45 RxOUT14 (out), 46 RxOUT15 (out), 47 RxOUT16 (out), 48 VCC (power)

## DS92LV16TVHG
designator U?
16-Bit Bus LVDS Serializer/Deserializer - 25 - 80 MHz; Manufacturer: National Semiconductor; CompType: Interface IC; PackageTopMarking: NSUZXYTT*DS92LV16TVHG*BBBBB; Published: 27-Nov-2008; DatasheetVersion: Feb-2002; PackageVersion: revE, Feb-2005; PackageReference: VHG80A; Publisher: Altium Limited; PackageDescription: LQFP, Jedec, Metric, 12 x 12 x 1.4mm, 80 Lead, 0.5mm Pitch; PartNumber: DS92LV16TVHG; RoHS: O; PinCount: 80; DigiKeyPartNumber: DS92LV16TVHG-ND; Code_JEDEC: MS-026-BDD; ComponentLink1Description: DS92LV16 Datasheet; ComponentLink1URL: http://www.national.com/ds/DS/DS92LV16.pdf; ComponentLink2Description: DS92LV16 Web Page; ComponentLink2URL: http://www.national.com/pf/DS/DS92LV16.html; ComponentLink3Description: VHG80A Package Page; ComponentLink3URL: http://www.national.com/packaging/folders/vhg80a.html
footprint VHG80A_N (Thin QFP, 80-Leads, Body 12x12mm, Pitch 0.5mm, IPC Medium Density)
footprint VHG80A_L (Thin QFP, 80-Leads, Body 12x12mm, Pitch 0.5mm, IPC High Density)
footprint VHG80A_M (Thin QFP, 80-Leads, Body 12x12mm, Pitch 0.5mm, IPC Low Density)
part A pins: 1 ~{RPWDN} (in), 2 REN (in), 3 CONFIG1, 4 REFCLK (in), 7 RIN+ (in), 8 RIN- (in), 13 DO+ (out), 14 DO- (out), 17 TCLK (in), 18 CONFIG2, 19 DEN (in), 20 SYNC (in), 21 DIN0 (in), 22 DIN1 (in), 23 DIN2 (in), 24 DIN3 (in), 25 DIN4 (in), 26 DIN5 (in), 27 DIN6 (in), 28 DIN7 (in), 33 DIN8 (in), 34 DIN9 (in), 35 DIN10 (in), 36 DIN11 (in), 37 DIN12 (in), 38 DIN13 (in), 39 DIN14 (in), 40 DIN15 (in), 42 ~{TPWDN} (in), 45 ROUT0 (out), 46 ROUT1 (out), 47 ROUT2 (out), 48 ROUT3 (out), 49 RCLK (out), 54 ROUT4 (out), 55 ROUT5 (out), 56 ROUT6 (out), 57 ROUT7 (out), 63 ~{LOCK} (out), 64 ROUT8 (out), 65 ROUT9 (out), 66 ROUT10 (out), 67 ROUT11 (out), 70 ROUT12 (out), 71 ROUT13 (out), 72 ROUT14 (out), 73 ROUT15 (out), 78 LINE_LE (in), 79 LOCAL_LE (in)
part B pins: 5 AVDD (power), 6 AGND (power), 9 AGND (power), 10 AVDD (power), 11 AVDD (power), 12 AGND (power), 15 AVDD (power), 16 AGND (power), 29 PGND (power), 30 PVDD (power), 31 PVDD (power), 32 PGND (power), 41 DGND (power), 43 DVDD (power), 44 DGND (power), 50 DVDD (power), 51 DGND (power), 52 DGND (power), 53 DVDD (power), 58 DVDD (power), 59 DGND (power), 60 DGND (power), 61 DGND (power), 62 DVDD (power), 68 DGND (power), 69 DVDD (power), 74 PGND (power), 75 PVDD (power), 76 PGND (power), 77 PVDD (power), 80 DGND (power)

## DS92LV16TVHG_1
designator U?, comment DS92LV16TVHG
16-Bit Bus LVDS Serializer/Deserializer - 25 - 80 MHz; Manufacturer: National Semiconductor; CompType: Interface IC; PackageTopMarking: NSUZXYTT*DS92LV16TVHG*BBBBB; Published: 27-Nov-2008; DatasheetVersion: Feb-2002; PackageVersion: revE, Feb-2005; PackageReference: VHG80A; Publisher: Altium Limited; PackageDescription: LQFP, Jedec, Metric, 12 x 12 x 1.4mm, 80 Lead, 0.5mm Pitch; PartNumber: DS92LV16TVHG; RoHS: O; PinCount: 80; DigiKeyPartNumber: DS92LV16TVHG-ND; Code_JEDEC: MS-026-BDD; ComponentLink1Description: DS92LV16 Datasheet; ComponentLink1URL: http://www.national.com/ds/DS/DS92LV16.pdf; ComponentLink2Description: DS92LV16 Web Page; ComponentLink2URL: http://www.national.com/pf/DS/DS92LV16.html; ComponentLink3Description: VHG80A Package Page; ComponentLink3URL: http://www.national.com/packaging/folders/vhg80a.html
footprint VHG80A_N (Thin QFP, 80-Leads, Body 12x12mm, Pitch 0.5mm, IPC Medium Density)
footprint VHG80A_L (Thin QFP, 80-Leads, Body 12x12mm, Pitch 0.5mm, IPC High Density)
footprint VHG80A_M (Thin QFP, 80-Leads, Body 12x12mm, Pitch 0.5mm, IPC Low Density)
part A pins: 1 ~{RPWDN} (in), 2 REN (in), 3 CONFIG1, 4 REFCLK (in), 7 RIN+ (in), 8 RIN- (in), 13 DO+ (out), 14 DO- (out), 17 TCLK (in), 18 CONFIG2, 19 DEN (in), 20 SYNC (in), 21 DIN0 (in), 22 DIN1 (in), 23 DIN2 (in), 24 DIN3 (in), 25 DIN4 (in), 26 DIN5 (in), 27 DIN6 (in), 28 DIN7 (in), 33 DIN8 (in), 34 DIN9 (in), 35 DIN10 (in), 36 DIN11 (in), 37 DIN12 (in), 38 DIN13 (in), 39 DIN14 (in), 40 DIN15 (in), 42 ~{TPWDN} (in), 45 ROUT0 (out), 46 ROUT1 (out), 47 ROUT2 (out), 48 ROUT3 (out), 49 RCLK (out), 54 ROUT4 (out), 55 ROUT5 (out), 56 ROUT6 (out), 57 ROUT7 (out), 63 ~{LOCK} (out), 64 ROUT8 (out), 65 ROUT9 (out), 66 ROUT10 (out), 67 ROUT11 (out), 70 ROUT12 (out), 71 ROUT13 (out), 72 ROUT14 (out), 73 ROUT15 (out), 78 LINE_LE (in), 79 LOCAL_LE (in)
part B pins: 5 AVDD (power), 6 AGND (power), 9 AGND (power), 10 AVDD (power), 11 AVDD (power), 12 AGND (power), 15 AVDD (power), 16 AGND (power), 29 PGND (power), 30 PVDD (power), 31 PVDD (power), 32 PGND (power), 41 DGND (power), 43 DVDD (power), 44 DGND (power), 50 DVDD (power), 51 DGND (power), 52 DGND (power), 53 DVDD (power), 58 DVDD (power), 59 DGND (power), 60 DGND (power), 61 DGND (power), 62 DVDD (power), 68 DGND (power), 69 DVDD (power), 74 PGND (power), 75 PVDD (power), 76 PGND (power), 77 PVDD (power), 80 DGND (power)

## DS1820
designator U?
1-Wire Digital Thermometer; ComponentAvailability: Obsolete; Published: 13-Oct-2000; LatestRevisionDate: 17-Jul-2002; LatestRevisionNote: Re-released for DXP Platform.; DatasheetVersion: 5-Mar-1998; PackageVersion: 1999; PackageReference: PR35; Publisher: Altium Limited; PackageDescription: TO, Flat Index; 3 In-Line, Axial Leads; Body Dia. 4.6mm; Leads 0.56 x 0.51 mm (max); ComponentLink1Description: Manufacturer Link; ComponentLink1URL: http://www.maxim-ic.com/; ComponentLink2Description: Datasheet; ComponentLink2URL: http://pdfserv.maxim-ic.com/en/ds/DS1820-DS1820S.pdf; ComponentLink3Description: Discontinuation Notice; ComponentLink3URL: http://www.maxim-ic.com/qa/pdfs/non-obsolescence-letter.pdf
footprint PR35 (TO, Flat Index; 3 In-Line, Axial Leads; Body Dia. 4.6mm; Leads 0.56 x 0.51 mm (max))
pins: 1 GND (power), 2 DQ (io), 3 VCC (power)

## DS3231
designator U?
pins: 1 32KHZ, 2 VCC, 3 ~{INT}/SQW, 4 ~{RST}, 5 N.C., 6 N.C., 7 N.C., 8 N.C., 9 N.C., 10 N.C., 11 N.C., 12 N.C., 13 GND, 14 VBAT, 15 SDA, 16 SCL

## DW01
designator U?
pins: 1 OD, 2 CS, 3 OC, 4 TD, 5 VCC (power), 6 GND (power)

## EPCS4SI8
designator U?
EPCS4 Series, In-system programmable 3.3V serial configuration device, 8-Pin SOIC, 4-Megabit, Industrial Grade; Configures: Cyclone II, Stratix II, & Cyclone Devices; Published: 17-Sep-2003; LatestRevisionDate: 13-Apr-2006; LatestRevisionNote: IPC-7351 Footprint Added.; DatasheetVersion: ver2.0, Oct-2003; PackageVersion: ver13.0, May-2005; PackageReference: SOIC8; Publisher: Altium Limited; PackageDescription: 8-Pin Small Outline Integrated Circuit Package (SOIC8); Code_JEDEC: MS-012-AA; Code_IPC: SOIC127P600-8; ComponentLink1Description: Manufacturer Link; ComponentLink1URL: http://www.altera.com/products/devices/config/cfg-index.html; ComponentLink2Description: Configuration Handbook; ComponentLink2URL: http://www.altera.com/literature/hb/cfg/config_handbook.pdf; ComponentLink3Description: Pinout Specification; ComponentLink3URL: http://www.altera.com/literature/hb/cfg/cyc_c51014.pdf; ComponentLink4Description: Packaging Specification; ComponentLink4URL: http://www.altera.com/literature/ds/dspkg.pdf
footprint SOIC8_N (SOIC, 8-Leads, Body 4.9x3.9mm, Pitch 1.27mm, IPC Medium Density)
footprint SOIC8_L (SOIC, 8-Leads, Body 4.9x3.9mm, Pitch 1.27mm, IPC High Density)
footprint SOIC8_M (SOIC, 8-Leads, Body 4.9x3.9mm, Pitch 1.27mm, IPC Low Density)
3D model SOIC8 (8-Pin Small Outline Integrated Circuit Package (SOIC8))
pins: 1 nCS (in) "Active low, chip select input", 2 DATA (out) "Serial data out", 3 VCC (power) "3.3V supply", 4 GND (power) "Ground", 5 ASDI (in) "AS data in", 6 DCLK (in) "Provides timing of the serial interface", 7 VCC (power) "3.3V supply", 8 VCC (power) "3.3V supply"

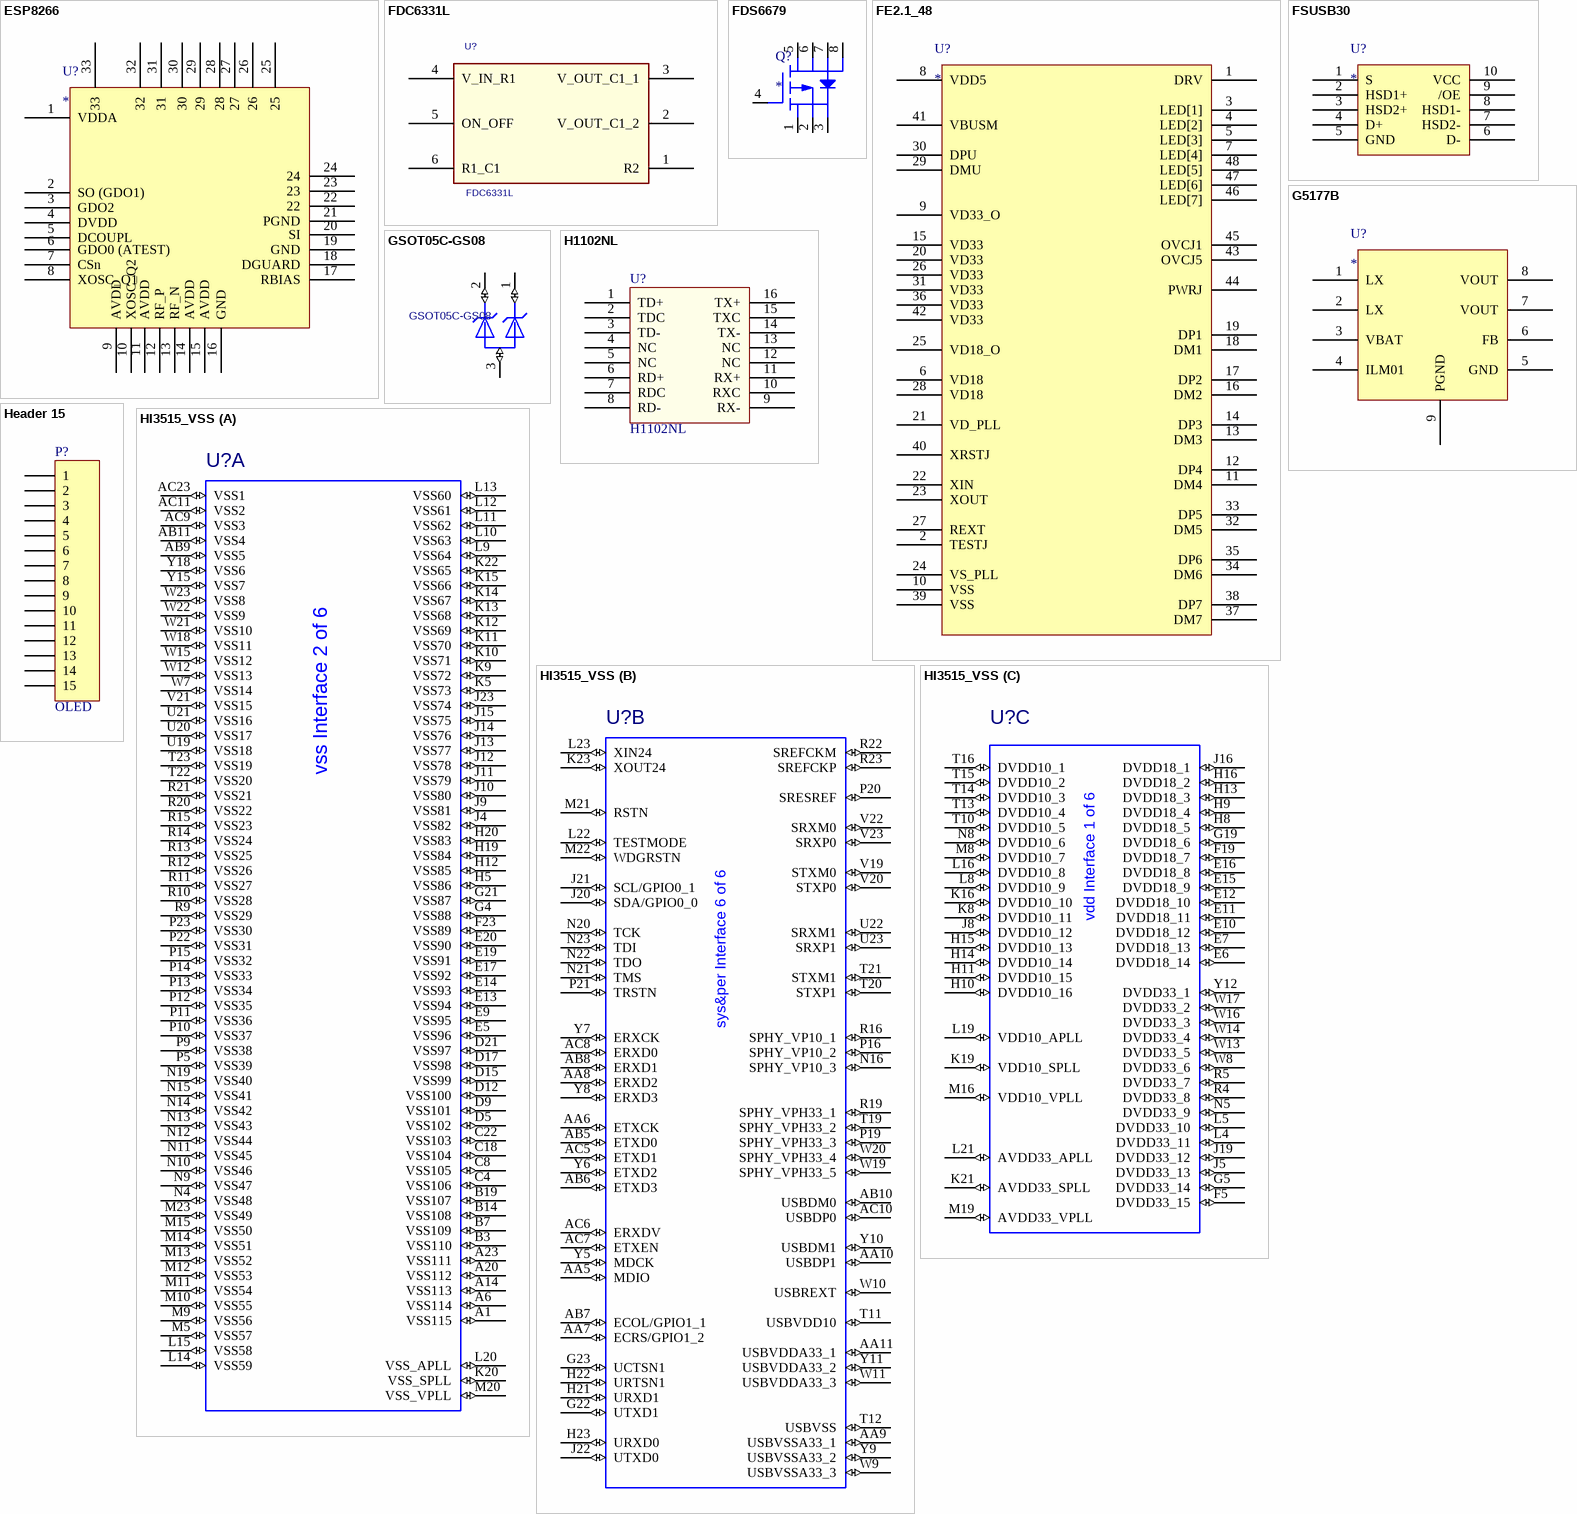
[diagram p4: symbols ESP8266 to HI3515_VSS]

## ESP8266
designator U?
pins: 1 VDDA, 2 SO (GDO1), 3 GDO2, 4 DVDD, 5 DCOUPL, 6 GDO0 (ATEST), 7 CSn, 8 XOSC_Q1, 9 AVDD, 10 XOSC_Q2, 11 AVDD, 12 RF_P, 13 RF_N, 14 AVDD, 15 AVDD, 16 GND, 17 RBIAS, 18 DGUARD, 19 GND, 20 SI, 21 PGND, 22, 23, 24, 25, 26, 27, 28, 29, 30, 31, 32, 33

## FDC6331L
designator U?
IC LOAD SW 2.5-8V SSOT6; AGILE_PN: 315-78829; MFG_NAME01: Fairchild; CAD_APPROVED: Yes; MFG_PN01: FDC6331L; ROHS: Yes; HEIGHT: 1.1MM
pins: 1 R2, 2 V_OUT_C1_2, 3 V_OUT_C1_1, 4 V_IN_R1, 5 ON_OFF, 6 R1_C1

## FDS6679
designator Q?
pins: 1 S1, 2 S2, 3 S3, 4 G, 5 D1, 6 D2, 7 D3, 8 D4

## FE2.1_48
designator U?
pins: 1 DRV, 2 TESTJ, 3 LED[1], 4 LED[2], 5 LED[3], 6 VD18, 7 LED[4], 8 VDD5, 9 VD33_O, 10 VSS, 11 DM4, 12 DP4, 13 DM3, 14 DP3, 15 VD33, 16 DM2, 17 DP2, 18 DM1, 19 DP1, 20 VD33, 21 VD_PLL, 22 XIN, 23 XOUT, 24 VS_PLL, 25 VD18_O, 26 VD33, 27 REXT, 28 VD18, 29 DMU, 30 DPU, 31 VD33, 32 DM5, 33 DP5, 34 DM6, 35 DP6, 36 VD33, 37 DM7, 38 DP7, 39 VSS, 40 XRSTJ, 41 VBUSM, 42 VD33, 43 OVCJ5, 44 PWRJ, 45 OVCJ1, 46 LED[7], 47 LED[6], 48 LED[5]

## FSUSB30
designator U?
pins: 1 S, 2 HSD1+, 3 HSD2+, 4 D+, 5 GND, 6 D-, 7 HSD2-, 8 HSD1-, 9 /OE, 10 VCC

## G5177B
designator U?
pins: 1 LX, 2 LX, 3 VBAT, 4 ILM01, 5 GND, 6 FB, 7 VOUT, 8 VOUT, 9 PGND

## GSOT05C-GS08
designator D10
PARTS: 1; OriginalSymbolOrigin: (20,40); CODE: 15040152; PKG_TYPE: SOT23; LEVEL: STD; DEVICE: GSOT05C_GS08
pins: 1 C1 (io), 2 C2 (io), 3 A (io)

## H1102NL
designator U?
pins: 1 TD+, 2 TDC, 3 TD-, 4 NC, 5 NC, 6 RD+, 7 RDC, 8 RD-, 9 RX-, 10 RXC, 11 RX+, 12 NC, 13 NC, 14 TX-, 15 TXC, 16 TX+

## Header 15
designator P?, comment OLED
Header, 15-Pin; LatestRevisionDate: 17-Jul-2002; LatestRevisionNote: Re-released for DXP Platform.; Publisher: Altium Limited
footprint HDR1X15 (Connector; Header; 15 Position)
signal-integrity model Connector
pins: 1, 2, 3, 4, 5, 6, 7, 8, 9, 10, 11, 12, 13, 14, 15

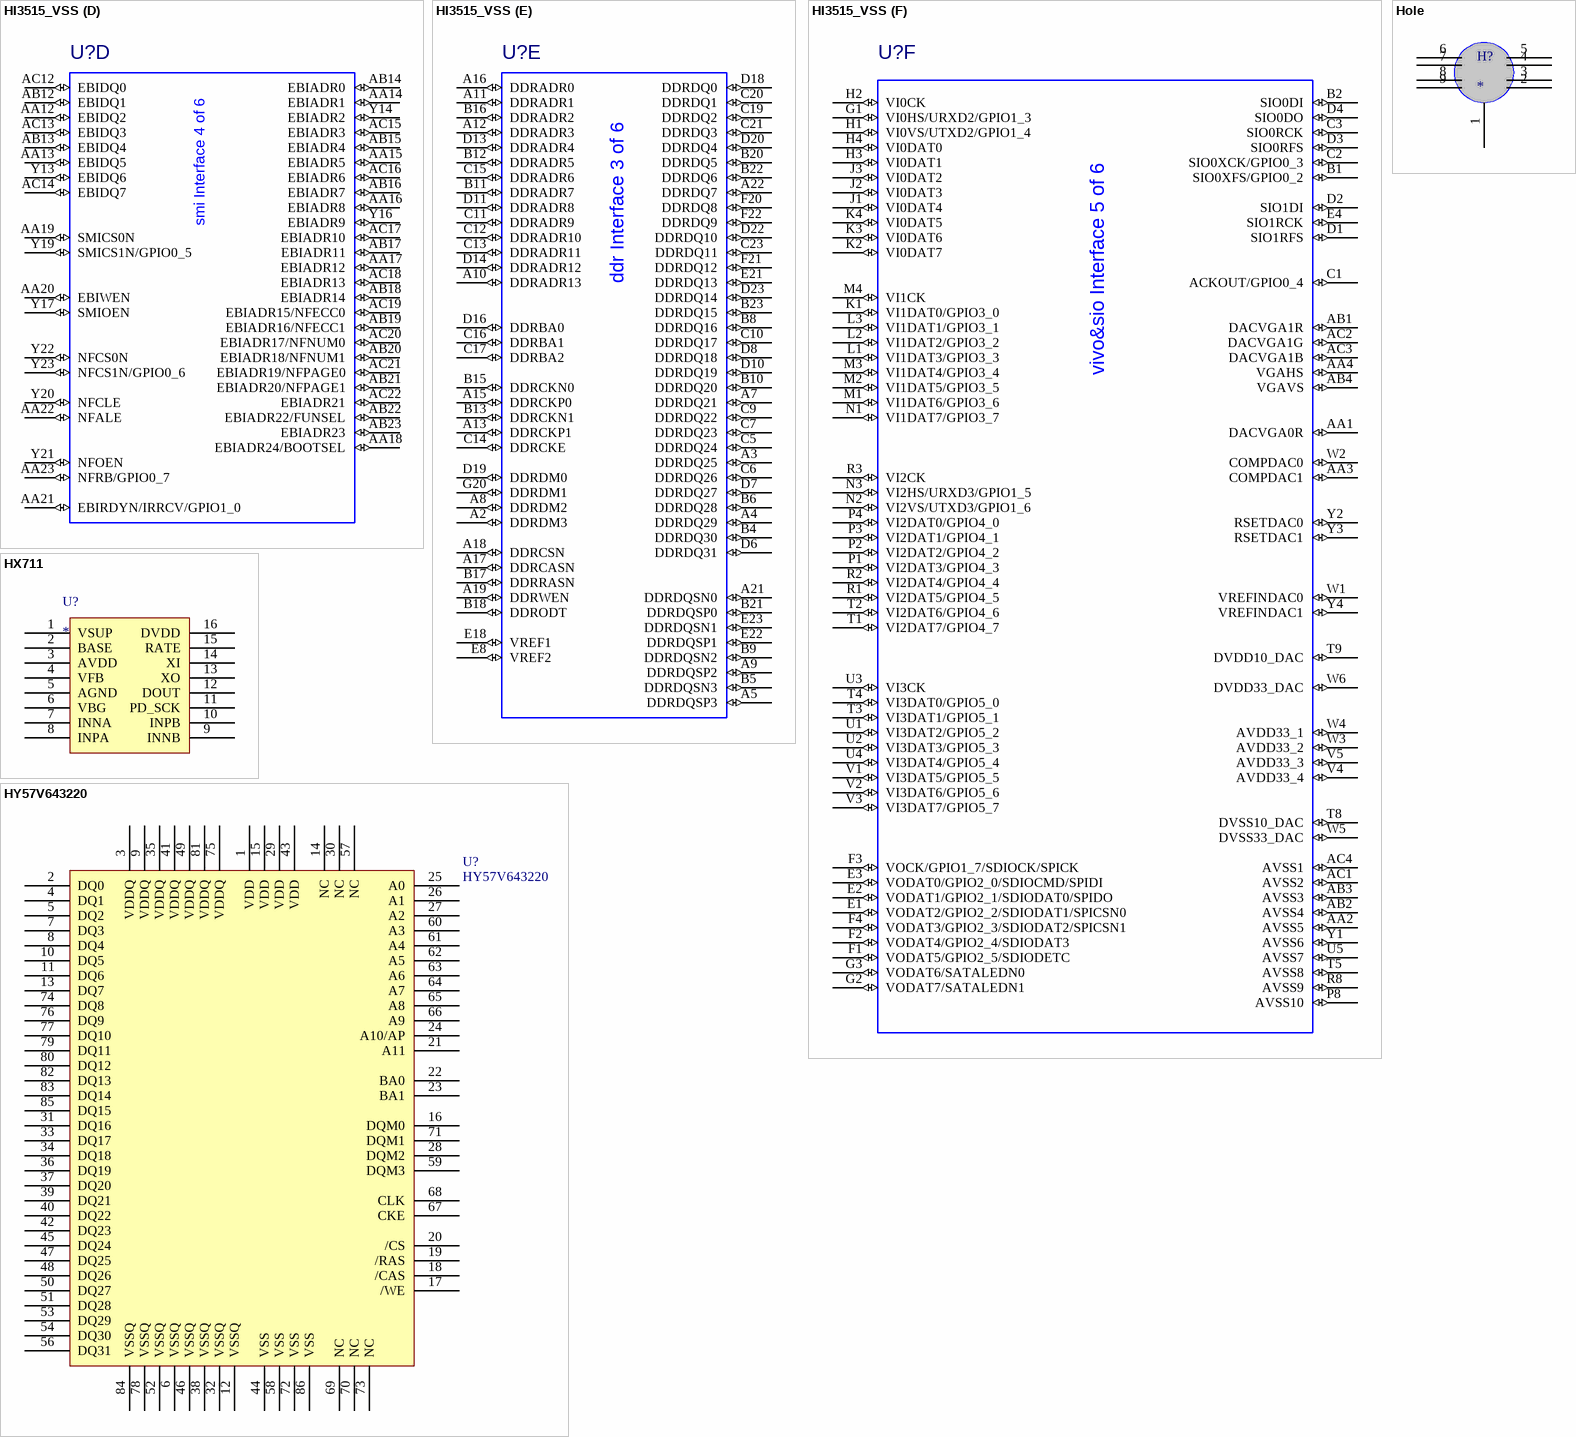
[diagram p5: symbols HI3515_VSS to HY57V643220]

## HI3515_VSS
designator U?  (value not drawn)
PARTS: 1; VendorGraphCreatedProp: TRUE; OriginalSymbolOrigin: (30,650); LEVEL: STD; HETERO: (HI3515_VSS),(HI3515_SMI),(HI3515_SYS_PER),(HI3515_VIVO_SIO),(HI3515_VDD),(HI3515_DDR); DEVICE: HI3515; PKG_TYPE: BGA441-32-2323
footprint BGA441-32-2323
part A pins: A1 VSS115 (io), A6 VSS114 (io), A14 VSS113 (io), A20 VSS112 (io), A23 VSS111 (io), AB9 VSS5 (io), AB11 VSS4 (io), AC9 VSS3 (io), AC11 VSS2 (io), AC23 VSS1 (io), B3 VSS110 (io), B7 VSS109 (io), B14 VSS108 (io), B19 VSS107 (io), C4 VSS106 (io), C8 VSS105 (io), C18 VSS104 (io), C22 VSS103 (io), D5 VSS102 (io), D9 VSS101 (io), D12 VSS100 (io), D15 VSS99 (io), D17 VSS98 (io), D21 VSS97 (io), E5 VSS96 (io), E9 VSS95 (io), E13 VSS94 (io), E14 VSS93 (io), E17 VSS92 (io), E19 VSS91 (io), E20 VSS90 (io), F23 VSS89 (io), G4 VSS88 (io), G21 VSS87 (io), H5 VSS86 (io), H12 VSS85 (io), H19 VSS84 (io), H20 VSS83 (io), J4 VSS82 (io), J9 VSS81 (io), J10 VSS80 (io), J11 VSS79 (io), J12 VSS78 (io), J13 VSS77 (io), J14 VSS76 (io), J15 VSS75 (io), J23 VSS74 (io), K5 VSS73 (io), K9 VSS72 (io), K10 VSS71 (io), K11 VSS70 (io), K12 VSS69 (io), K13 VSS68 (io), K14 VSS67 (io), K15 VSS66 (io), K20 VSS_SPLL (io), K22 VSS65 (io), L9 VSS64 (io), L10 VSS63 (io), L11 VSS62 (io), L12 VSS61 (io), L13 VSS60 (io), L14 VSS59 (io), L15 VSS58 (io), L20 VSS_APLL (io), M5 VSS57 (io), M9 VSS56 (io), M10 VSS55 (io), M11 VSS54 (io), M12 VSS53 (io), M13 VSS52 (io), M14 VSS51 (io), M15 VSS50 (io), M20 VSS_VPLL (io), M23 VSS49 (io), N4 VSS48 (io), N9 VSS47 (io), N10 VSS46 (io), N11 VSS45 (io), N12 VSS44 (io), N13 VSS43 (io), N14 VSS42 (io), N15 VSS41 (io), N19 VSS40 (io), P5 VSS39 (io), P9 VSS38 (io), P10 VSS37 (io), P11 VSS36 (io), P12 VSS35 (io), P13 VSS34 (io), P14 VSS33 (io), P15 VSS32 (io), P22 VSS31 (io), P23 VSS30 (io), R9 VSS29 (io), R10 VSS28 (io), R11 VSS27 (io), R12 VSS26 (io), R13 VSS25 (io), R14 VSS24 (io), R15 VSS23 (io), R20 VSS22 (io), R21 VSS21 (io), T22 VSS20 (io), T23 VSS19 (io), U19 VSS18 (io), U20 VSS17 (io), U21 VSS16 (io), V21 VSS15 (io), W7 VSS14 (io), W12 VSS13 (io), W15 VSS12 (io), W18 VSS11 (io), W21 VSS10 (io), W22 VSS9 (io), W23 VSS8 (io), Y15 VSS7 (io), Y18 VSS6 (io)
part B pins: AA5 MDIO (io), AA6 ETXCK (io), AA7 ECRS/GPIO1_2 (io), AA8 ERXD2 (io), AA9 USBVSSA33_1 (io), AA10 USBDP1 (io), AA11 USBVDDA33_1 (io), AB5 ETXD0 (io), AB6 ETXD3 (io), AB7 ECOL/GPIO1_1 (io), AB8 ERXD1 (io), AB10 USBDM0 (io), AC5 ETXD1 (io), AC6 ERXDV (io), AC7 ETXEN (io), AC8 ERXD0 (io), AC10 USBDP0 (io), G22 UTXD1 (io), G23 UCTSN1 (io), H21 URXD1 (io), H22 URTSN1 (io), H23 URXD0 (io), J20 SDA/GPIO0_0 (io), J21 SCL/GPIO0_1 (io), J22 UTXD0 (io), K23 XOUT24 (io), L22 TESTMODE (io), L23 XIN24 (io), M21 RSTN (io), M22 WDGRSTN (io), N16 SPHY_VP10_3 (io), N20 TCK (io), N21 TMS (io), N22 TDO (io), N23 TDI (io), P16 SPHY_VP10_2 (io), P19 SPHY_VPH33_3 (io), P20 SRESREF (io), P21 TRSTN (io), R16 SPHY_VP10_1 (io), R19 SPHY_VPH33_1 (io), R22 SREFCKM (io), R23 SREFCKP (io), T11 USBVDD10 (io), T12 USBVSS (io), T19 SPHY_VPH33_2 (io), T20 STXP1 (io), T21 STXM1 (io), U22 SRXM1 (io), U23 SRXP1 (io), V19 STXM0 (io), V20 STXP0 (io), V22 SRXM0 (io), V23 SRXP0 (io), W9 USBVSSA33_3 (io), W10 USBREXT (io), W11 USBVDDA33_3 (io), W19 SPHY_VPH33_5 (io), W20 SPHY_VPH33_4 (io), Y5 MDCK (io), Y6 ETXD2 (io), Y7 ERXCK (io), Y8 ERXD3 (io), Y9 USBVSSA33_2 (io), Y10 USBDM1 (io), Y11 USBVDDA33_2 (io)
part C pins: E6 DVDD18_14 (io), E7 DVDD18_13 (io), E10 DVDD18_12 (io), E11 DVDD18_11 (io), E12 DVDD18_10 (io), E15 DVDD18_9 (io), E16 DVDD18_8 (io), F5 DVDD33_15 (io), F19 DVDD18_7 (io), G5 DVDD33_14 (io), G19 DVDD18_6 (io), H8 DVDD18_5 (io), H9 DVDD18_4 (io), H10 DVDD10_16 (io), H11 DVDD10_15 (io), H13 DVDD18_3 (io), H14 DVDD10_14 (io), H15 DVDD10_13 (io), H16 DVDD18_2 (io), J5 DVDD33_13 (io), J8 DVDD10_12 (io), J16 DVDD18_1 (io), J19 DVDD33_12 (io), K8 DVDD10_11 (io), K16 DVDD10_10 (io), K19 VDD10_SPLL (io), K21 AVDD33_SPLL (io), L4 DVDD33_11 (io), L5 DVDD33_10 (io), L8 DVDD10_9 (io), L16 DVDD10_8 (io), L19 VDD10_APLL (io), L21 AVDD33_APLL (io), M8 DVDD10_7 (io), M16 VDD10_VPLL (io), M19 AVDD33_VPLL (io), N5 DVDD33_9 (io), N8 DVDD10_6 (io), R4 DVDD33_8 (io), R5 DVDD33_7 (io), T10 DVDD10_5 (io), T13 DVDD10_4 (io), T14 DVDD10_3 (io), T15 DVDD10_2 (io), T16 DVDD10_1 (io), W8 DVDD33_6 (io), W13 DVDD33_5 (io), W14 DVDD33_4 (io), W16 DVDD33_3 (io), W17 DVDD33_2 (io), Y12 DVDD33_1 (io)
part D pins: AA12 EBIDQ2 (io), AA13 EBIDQ5 (io), AA14 EBIADR1 (io), AA15 EBIADR5 (io), AA16 EBIADR8 (io), AA17 EBIADR12 (io), AA18 EBIADR24/BOOTSEL (io), AA19 SMICS0N (io), AA20 EBIWEN (io), AA21 EBIRDYN/IRRCV/GPIO1_0 (io), AA22 NFALE (io), AA23 NFRB/GPIO0_7 (io), AB12 EBIDQ1 (io), AB13 EBIDQ4 (io), AB14 EBIADR0 (io), AB15 EBIADR4 (io), AB16 EBIADR7 (io), AB17 EBIADR11 (io), AB18 EBIADR14 (io), AB19 EBIADR16/NFECC1 (io), AB20 EBIADR18/NFNUM1 (io), AB21 EBIADR20/NFPAGE1 (io), AB22 EBIADR22/FUNSEL (io), AB23 EBIADR23 (io), AC12 EBIDQ0 (io), AC13 EBIDQ3 (io), AC14 EBIDQ7 (io), AC15 EBIADR3 (io), AC16 EBIADR6 (io), AC17 EBIADR10 (io), AC18 EBIADR13 (io), AC19 EBIADR15/NFECC0 (io), AC20 EBIADR17/NFNUM0 (io), AC21 EBIADR19/NFPAGE0 (io), AC22 EBIADR21 (io), Y13 EBIDQ6 (io), Y14 EBIADR2 (io), Y16 EBIADR9 (io), Y17 SMIOEN (io), Y19 SMICS1N/GPIO0_5 (io), Y20 NFCLE (io), Y21 NFOEN (io), Y22 NFCS0N (io), Y23 NFCS1N/GPIO0_6 (io)
part E pins: A2 DDRDM3 (io), A3 DDRDQ25 (io), A4 DDRDQ29 (io), A5 DDRDQSP3 (io), A7 DDRDQ21 (io), A8 DDRDM2 (io), A9 DDRDQSP2 (io), A10 DDRADR13 (io), A11 DDRADR1 (io), A12 DDRADR3 (io), A13 DDRCKP1 (io), A15 DDRCKP0 (io), A16 DDRADR0 (io), A17 DDRCASN (io), A18 DDRCSN (io), A19 DDRWEN (io), A21 DDRDQSN0 (io), A22 DDRDQ7 (io), B4 DDRDQ30 (io), B5 DDRDQSN3 (io), B6 DDRDQ28 (io), B8 DDRDQ16 (io), B9 DDRDQSN2 (io), B10 DDRDQ20 (io), B11 DDRADR7 (io), B12 DDRADR5 (io), B13 DDRCKN1 (io), B15 DDRCKN0 (io), B16 DDRADR2 (io), B17 DDRRASN (io), B18 DDRODT (io), B20 DDRDQ5 (io), B21 DDRDQSP0 (io), B22 DDRDQ6 (io), B23 DDRDQ15 (io), C5 DDRDQ24 (io), C6 DDRDQ26 (io), C7 DDRDQ23 (io), C9 DDRDQ22 (io), C10 DDRDQ17 (io), C11 DDRADR9 (io), C12 DDRADR10 (io), C13 DDRADR11 (io), C14 DDRCKE (io), C15 DDRADR6 (io), C16 DDRBA1 (io), C17 DDRBA2 (io), C19 DDRDQ2 (io), C20 DDRDQ1 (io), C21 DDRDQ3 (io), C23 DDRDQ11 (io), D6 DDRDQ31 (io), D7 DDRDQ27 (io), D8 DDRDQ18 (io), D10 DDRDQ19 (io), D11 DDRADR8 (io), D13 DDRADR4 (io), D14 DDRADR12 (io), D16 DDRBA0 (io), D18 DDRDQ0 (io), D19 DDRDM0 (io), D20 DDRDQ4 (io), D22 DDRDQ10 (io), D23 DDRDQ14 (io), E8 VREF2 (io), E18 VREF1 (io), E21 DDRDQ13 (io), E22 DDRDQSP1 (io), E23 DDRDQSN1 (io), F20 DDRDQ8 (io), F21 DDRDQ12 (io), F22 DDRDQ9 (io), G20 DDRDM1 (io)
part F pins: AA1 DACVGA0R (io), AA2 AVSS5 (io), AA3 COMPDAC1 (io), AA4 VGAHS (io), AB1 DACVGA1R (io), AB2 AVSS4 (io), AB3 AVSS3 (io), AB4 VGAVS (io), AC1 AVSS2 (io), AC2 DACVGA1G (io), AC3 DACVGA1B (io), AC4 AVSS1 (io), B1 SIO0XFS/GPIO0_2 (io), B2 SIO0DI (io), C1 ACKOUT/GPIO0_4 (io), C2 SIO0XCK/GPIO0_3 (io), C3 SIO0RCK (io), D1 SIO1RFS (io), D2 SIO1DI (io), D3 SIO0RFS (io), D4 SIO0DO (io), E1 VODAT2/GPIO2_2/SDIODAT1/SPICSN0 (io), E2 VODAT1/GPIO2_1/SDIODAT0/SPIDO (io), E3 VODAT0/GPIO2_0/SDIOCMD/SPIDI (io), E4 SIO1RCK (io), F1 VODAT5/GPIO2_5/SDIODETC (io), F2 VODAT4/GPIO2_4/SDIODAT3 (io), F3 VOCK/GPIO1_7/SDIOCK/SPICK (io), F4 VODAT3/GPIO2_3/SDIODAT2/SPICSN1 (io), G1 VI0HS/URXD2/GPIO1_3 (io), G2 VODAT7/SATALEDN1 (io), G3 VODAT6/SATALEDN0 (io), H1 VI0VS/UTXD2/GPIO1_4 (io), H2 VI0CK (io), H3 VI0DAT1 (io), H4 VI0DAT0 (io), J1 VI0DAT4 (io), J2 VI0DAT3 (io), J3 VI0DAT2 (io), K1 VI1DAT0/GPIO3_0 (io), K2 VI0DAT7 (io), K3 VI0DAT6 (io), K4 VI0DAT5 (io), L1 VI1DAT3/GPIO3_3 (io), L2 VI1DAT2/GPIO3_2 (io), L3 VI1DAT1/GPIO3_1 (io), M1 VI1DAT6/GPIO3_6 (io), M2 VI1DAT5/GPIO3_5 (io), M3 VI1DAT4/GPIO3_4 (io), M4 VI1CK (io), N1 VI1DAT7/GPIO3_7 (io), N2 VI2VS/UTXD3/GPIO1_6 (io), N3 VI2HS/URXD3/GPIO1_5 (io), P1 VI2DAT3/GPIO4_3 (io), P2 VI2DAT2/GPIO4_2 (io), P3 VI2DAT1/GPIO4_1 (io), P4 VI2DAT0/GPIO4_0 (io), P8 AVSS10 (io), R1 VI2DAT5/GPIO4_5 (io), R2 VI2DAT4/GPIO4_4 (io), R3 VI2CK (io), R8 AVSS9 (io), T1 VI2DAT7/GPIO4_7 (io), T2 VI2DAT6/GPIO4_6 (io), T3 VI3DAT1/GPIO5_1 (io), T4 VI3DAT0/GPIO5_0 (io), T5 AVSS8 (io), T8 DVSS10_DAC (io), T9 DVDD10_DAC (io), U1 VI3DAT2/GPIO5_2 (io), U2 VI3DAT3/GPIO5_3 (io), U3 VI3CK (io), U4 VI3DAT4/GPIO5_4 (io), U5 AVSS7 (io), V1 VI3DAT5/GPIO5_5 (io), V2 VI3DAT6/GPIO5_6 (io), V3 VI3DAT7/GPIO5_7 (io), V4 AVDD33_4 (io), V5 AVDD33_3 (io), W1 VREFINDAC0 (io), W2 COMPDAC0 (io), W3 AVDD33_2 (io), W4 AVDD33_1 (io), W5 DVSS33_DAC (io), W6 DVDD33_DAC (io), Y1 AVSS6 (io), Y2 RSETDAC0 (io), Y3 RSETDAC1 (io), Y4 VREFINDAC1 (io)
part A text: vss Interface 2 of 6
part B text: sys&per Interface 6 of 6
part C text: vdd Interface 1 of 6
part D text: smi Interface 4 of 6
part E text: ddr Interface 3 of 6
part F text: vivo&sio Interface 5 of 6

## Hole
designator H?
footprint MTHOLE9
pins: 1, 2, 3, 4, 5, 6, 7, 8, 9

## HX711
designator U?
pins: 1 VSUP, 2 BASE, 3 AVDD, 4 VFB, 5 AGND, 6 VBG, 7 INNA, 8 INPA, 9 INNB, 10 INPB, 11 PD_SCK, 12 DOUT, 13 XO, 14 XI, 15 RATE, 16 DVDD

## HY57V643220
designator U?
pins: 1 VDD, 2 DQ0, 3 VDDQ, 4 DQ1, 5 DQ2, 6 VSSQ, 7 DQ3, 8 DQ4, 9 VDDQ, 10 DQ5, 11 DQ6, 12 VSSQ, 13 DQ7, 14 NC, 15 VDD, 16 DQM0, 17 /WE, 18 /CAS, 19 /RAS, 20 /CS, 21 A11, 22 BA0, 23 BA1, 24 A10/AP, 25 A0, 26 A1, 27 A2, 28 DQM2, 29 VDD, 30 NC, 31 DQ16, 32 VSSQ, 33 DQ17, 34 DQ18, 35 VDDQ, 36 DQ19, 37 DQ20, 38 VSSQ, 39 DQ21, 40 DQ22, 41 VDDQ, 42 DQ23, 43 VDD, 44 VSS, 45 DQ24, 46 VSSQ, 47 DQ25, 48 DQ26, 49 VDDQ, 50 DQ27, 51 DQ28, 52 VSSQ, 53 DQ29, 54 DQ30, 56 DQ31, 57 NC, 58 VSS, 59 DQM3, 60 A3, 61 A4, 62 A5, 63 A6, 64 A7, 65 A8, 66 A9, 67 CKE, 68 CLK, 69 NC, 70 NC, 71 DQM1, 72 VSS, 73 NC, 74 DQ8, 75 VDDQ, 76 DQ9, 77 DQ10, 78 VSSQ, 79 DQ11, 80 DQ12, 81 VDDQ, 82 DQ13, 83 DQ14, 84 VSSQ, 85 DQ15, 86 VSS

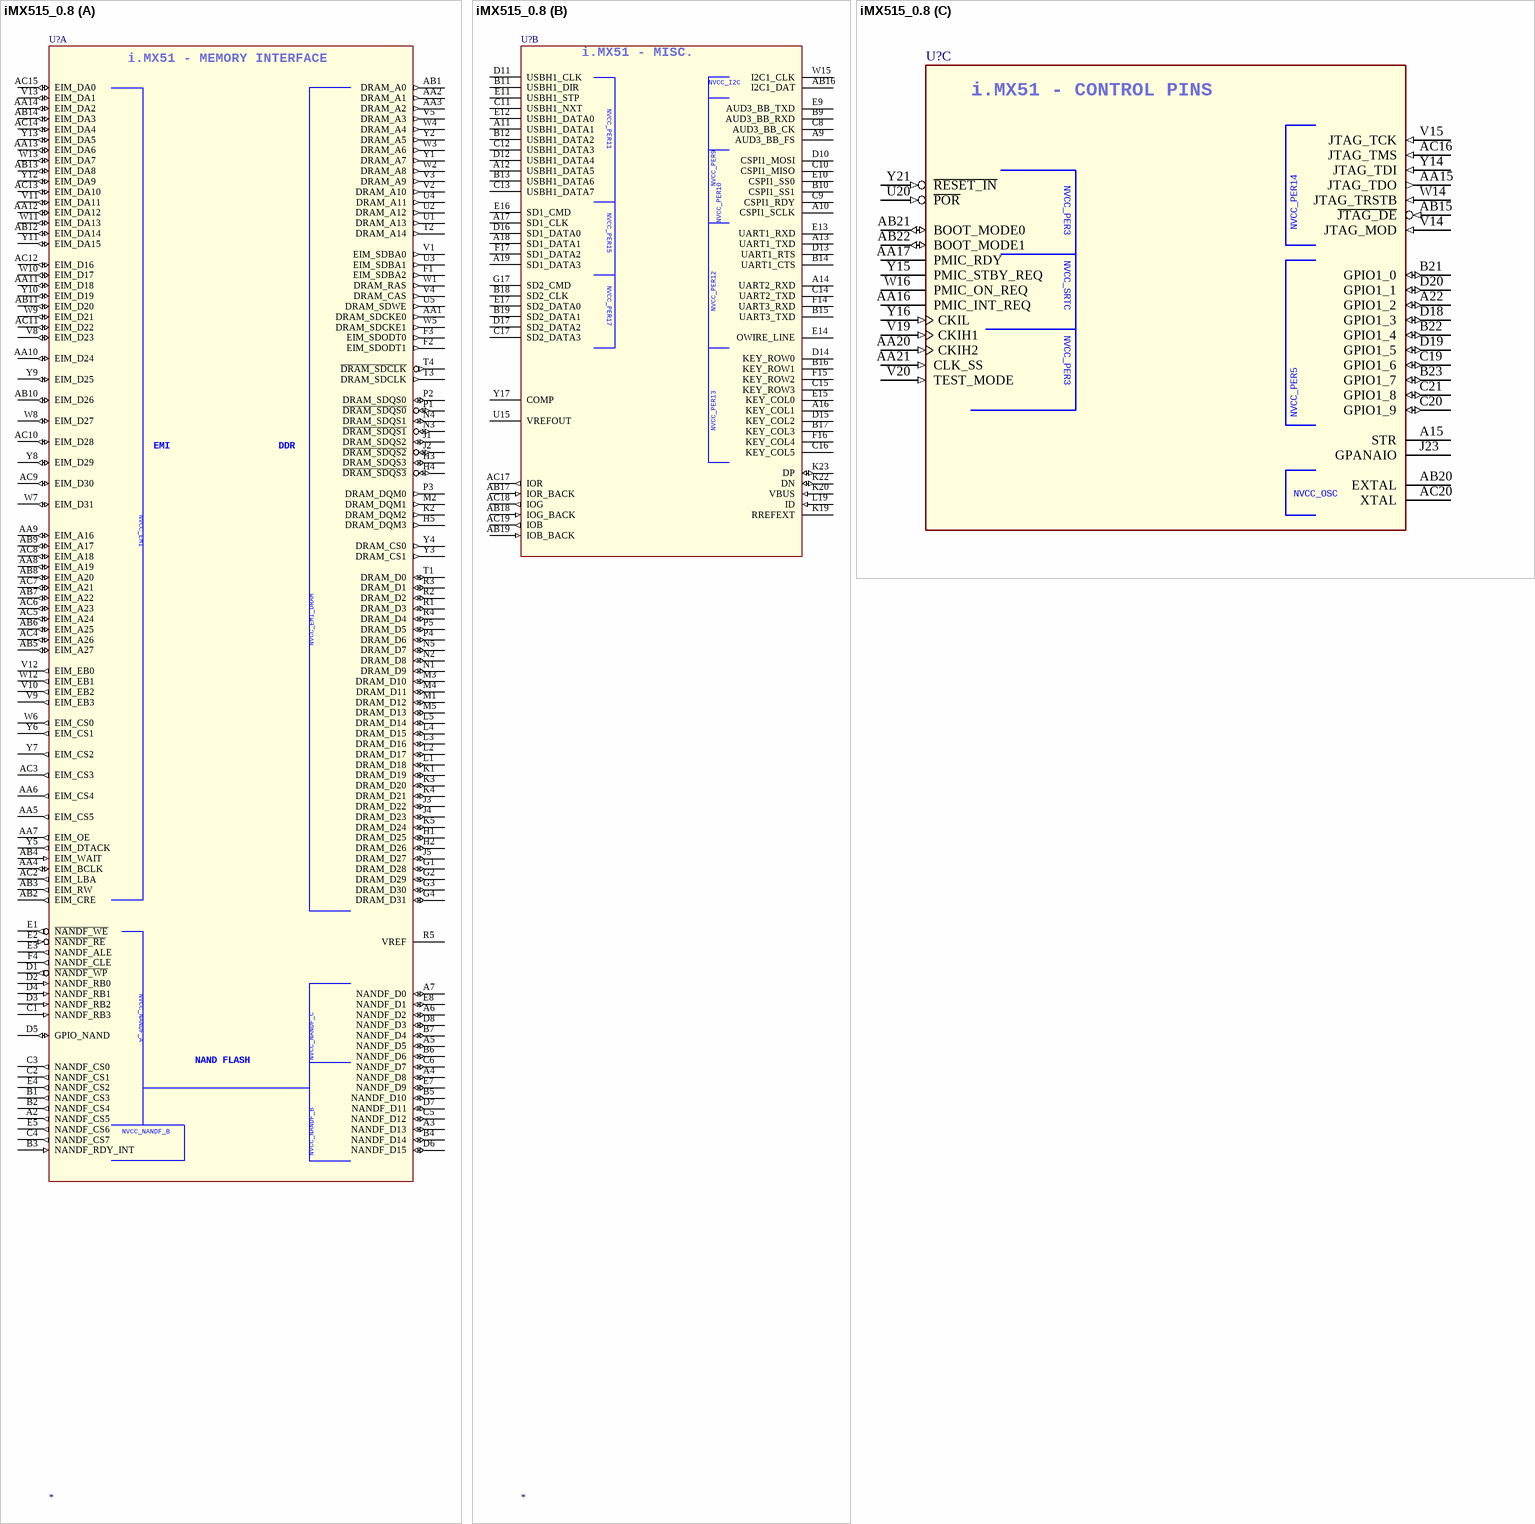
[diagram p6: symbol iMX515_0.8]

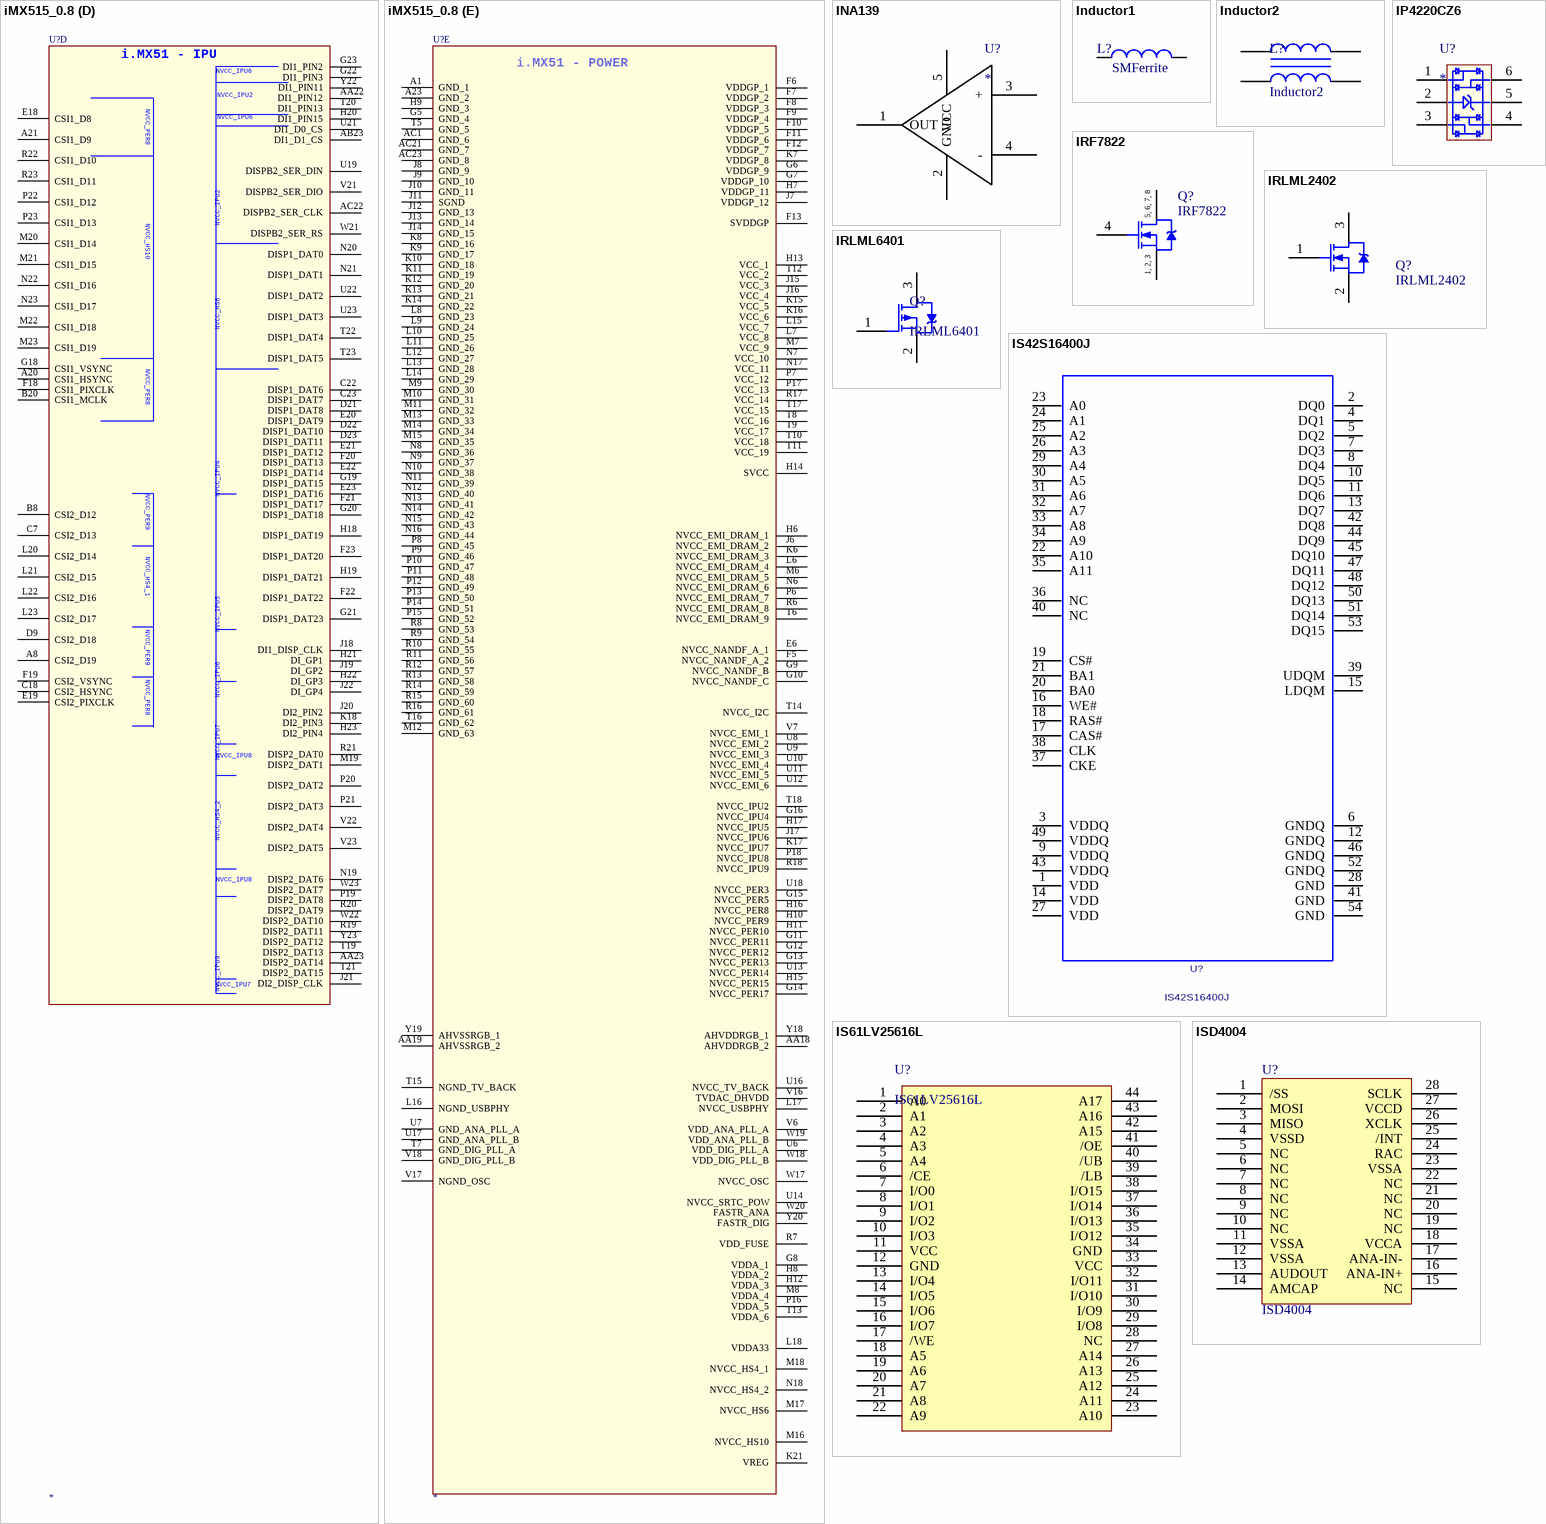
[diagram p7: symbols iMX515_0.8 to ISD4004]